# Altium schematic symbol library fpga_xilinx.SchLib: 19 symbols (part 2 of 5)
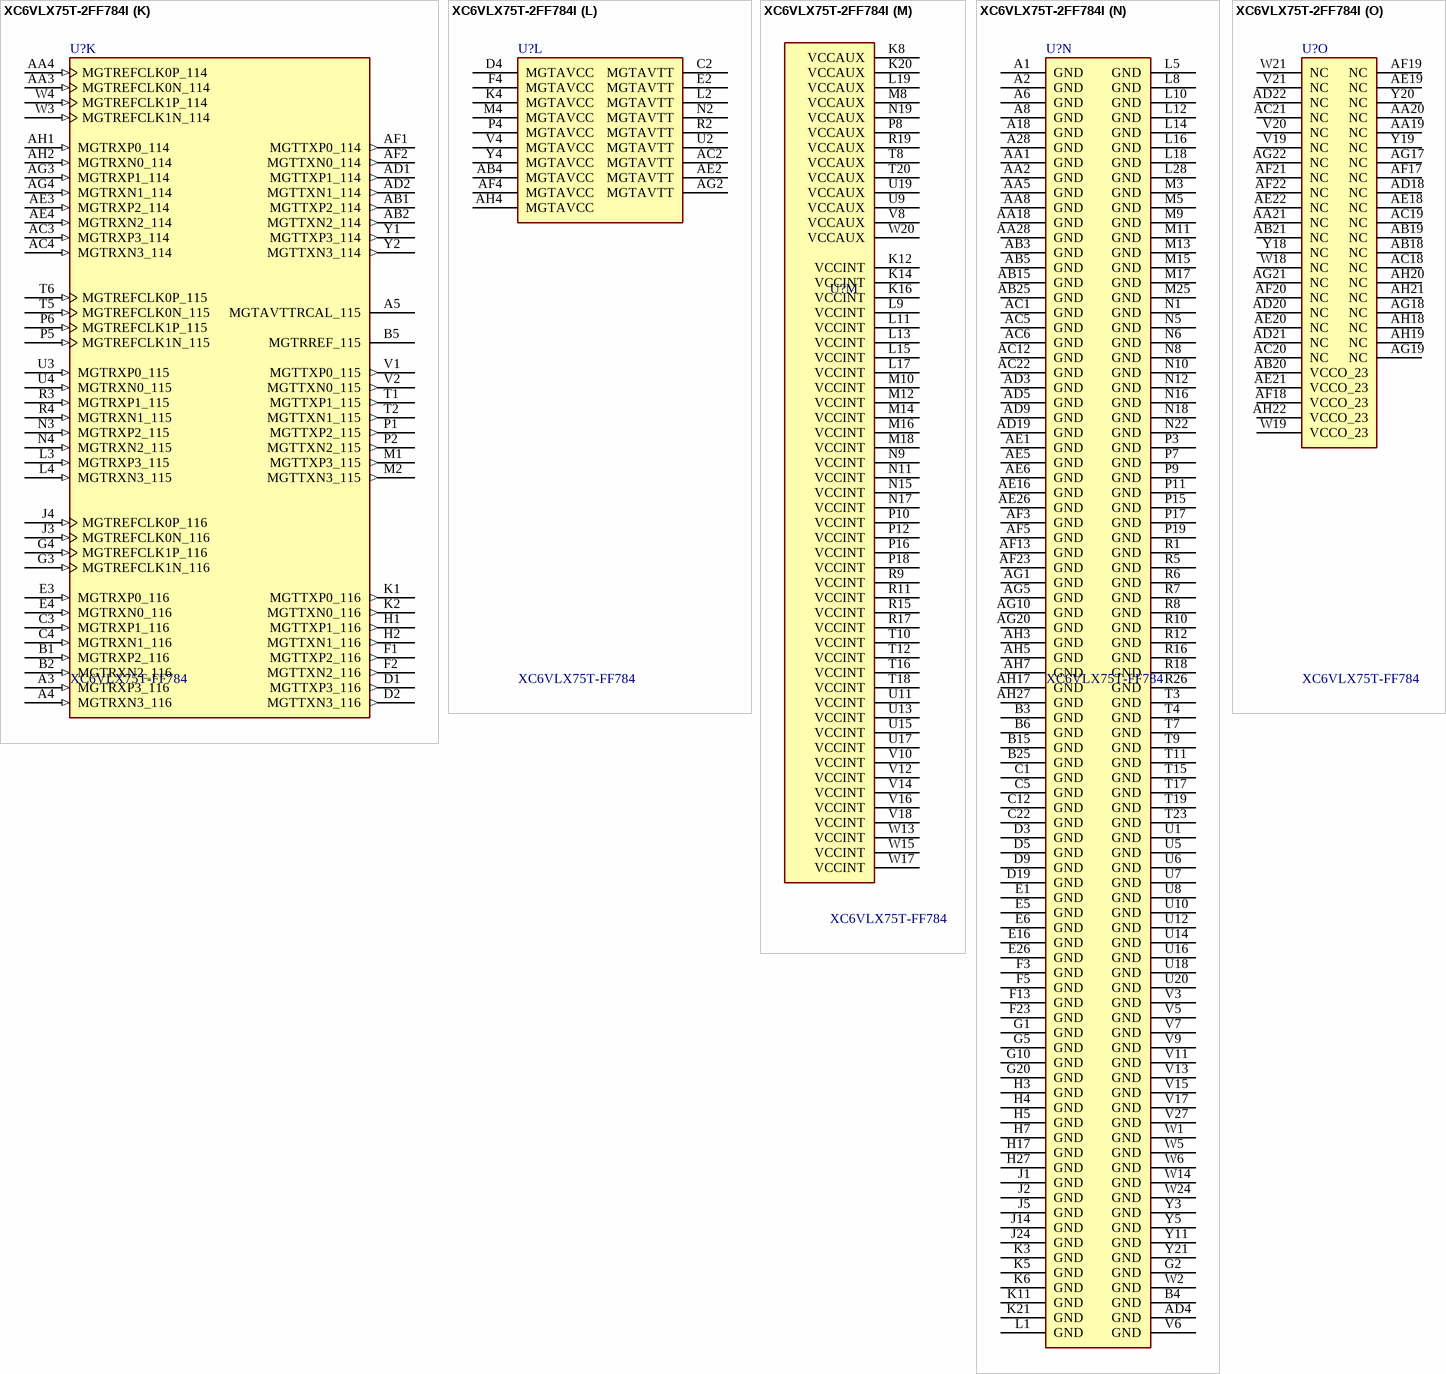
[diagram p41: symbol XC6VLX75T-2FF784I]

## XC6VLX75T-2FF784I
designator U?, comment XC6VLX75T-FF784
Virtex-6 LXT Platform FPGA, 360 User I/Os, 12 GTXs, 784-Ball FFBGA, Speed Grade 2, Industrial Grade; MANF: XILINX; MANF_P#: XC6VLX75T-2FF784I; ASSEMBLY: ASSEMBLY; VALUE: XC6VLX75T-FF784; PACKAGE: FF784; MountType: SMT
footprint BGA100_784_S29 (BGA, 784-Leads, Body 29x29mm, Pitch 1mm)
part A pins: P20 IO_L14N_VREF_14 (io), P21 IO_L8P_SRCC_14 (io), P22 IO_L8N_SRCC_14 (io), R20 IO_L14P_14 (io), R21 VCCO_14 (power), R22 IO_L18P_14 (io), R23 IO_L18N_14 (io), R24 IO_L12P_VRN_14 (io), R25 IO_L12N_VRP_14 (io), R27 IO_L0P_14 (io), R28 IO_L0N_14 (io), T21 IO_L19P_14 (io), T22 IO_L19N_14 (io), T24 IO_L15P_14 (io), T25 IO_L15N_14 (io), T26 IO_L10N_MRCC_14 (io), T27 IO_L1P_14 (io), T28 VCCO_14 (power), U21 IO_L17N_14 (io), U22 IO_L17P_14 (io), U23 IO_L11N_SRCC_14 (io), U24 IO_L16N_14 (io), U25 VCCO_14 (power), U26 IO_L10P_MRCC_14 (io), U27 IO_L1N_14 (io), U28 IO_L2N_14 (io), V22 VCCO_14 (power), V23 IO_L11P_SRCC_14 (io), V24 IO_L16P_14 (io), V25 IO_L3N_14 (io), V26 IO_L4N_VREF_14 (io), V28 IO_L2P_14 (io), W22 IO_L13N_14 (io), W23 IO_L9N_MRCC_14 (io), W25 IO_L3P_14 (io), W26 IO_L4P_14 (io), W27 IO_L6P_14 (io), W28 IO_L5N_14 (io), Y22 IO_L13P_14 (io), Y23 IO_L9P_MRCC_14 (io), Y24 IO_L7N_14 (io), Y25 IO_L7P_14 (io), Y26 VCCO_14 (power), Y27 IO_L6N_14 (io), Y28 IO_L5P_14 (io)
part B pins: H25 IO_L1P_15 (io), H26 IO_L1N_15 (io), J23 IO_L2N_SM8N_15 (io), J25 IO_L5N_SM10N_15 (io), J26 IO_L3P_SM9P_15 (io), J27 IO_L3N_SM9N_15 (io), J28 IO_L7P_SM12P_15 (io), K22 IO_L0P_15 (io), K23 IO_L0N_15 (io), K24 IO_L2P_SM8P_15 (io), K25 IO_L5P_SM10P_15 (io), K26 VCCO_15 (power), K27 IO_L9P_MRCC_15 (io), K28 IO_L7N_SM12N_15 (io), L20 IO_L4P_15 (io), L21 IO_L8P_SRCC_15 (io), L22 IO_L8N_SRCC_15 (io), L23 VCCO_15 (power), L24 IO_L14P_15 (io), L25 IO_L14N_VREF_15 (io), L26 IO_L9N_MRCC_15 (io), L27 IO_L12N_SM13N_15 (io), M19 IO_L4N_VREF_15 (io), M20 VCCO_15 (power), M21 IO_L10N_MRCC_15 (io), M22 IO_L10P_MRCC_15 (io), M23 IO_L6P_SM11P_15 (io), M24 IO_L6N_SM11N_15 (io), M26 IO_L11P_SRCC_15 (io), M27 IO_L12P_SM13P_15 (io), M28 IO_L15N_SM15N_15 (io), N20 IO_L18P_15 (io), N21 IO_L18N_15 (io), N23 IO_L19P_15 (io), N24 IO_L16P_VRN_15 (io), N25 IO_L16N_VRP_15 (io), N26 IO_L11N_SRCC_15 (io), N27 VCCO_15 (power), N28 IO_L15P_SM15P_15 (io), P23 IO_L19N_15 (io), P24 VCCO_15 (power), P25 IO_L17N_15 (io), P26 IO_L17P_15 (io), P27 IO_L13N_SM14N_15 (io), P28 IO_L13P_SM14P_15 (io)
part C pins: A26 IO_L7P_16 (io), A27 IO_L7N_16 (io), B24 IO_L1P_16 (io), B26 IO_L3P_16 (io), B27 IO_L9P_MRCC_16 (io), B28 IO_L9N_MRCC_16 (io), C23 IO_L4N_VREF_16 (io), C24 IO_L1N_16 (io), C25 IO_L3N_16 (io), C26 IO_L18N_16 (io), C27 VCCO_16 (power), C28 IO_L11N_SRCC_16 (io), D22 IO_L4P_16 (io), D23 IO_L14N_VREF_16 (io), D24 VCCO_16 (power), D25 IO_L6N_16 (io), D26 IO_L18P_16 (io), D27 IO_L11P_SRCC_16 (io), D28 IO_L13P_16 (io), E22 IO_L5P_16 (io), E23 IO_L14P_16 (io), E24 IO_L6P_16 (io), E25 IO_L10P_MRCC_16 (io), E27 IO_L16N_16 (io), E28 IO_L13N_16 (io), F22 IO_L5N_16 (io), F24 IO_L10N_MRCC_16 (io), F25 IO_L15N_16 (io), F26 IO_L15P_16 (io), F27 IO_L16P_16 (io), F28 VCCO_16 (power), G22 IO_L0P_16 (io), G23 IO_L2N_16 (io), G24 IO_L12N_VRP_16 (io), G25 VCCO_16 (power), G26 IO_L17N_16 (io), G27 IO_L17P_16 (io), G28 IO_L19P_16 (io), H21 IO_L0N_16 (io), H22 VCCO_16 (power), H23 IO_L2P_16 (io), H24 IO_L12P_VRN_16 (io), H28 IO_L19N_16 (io), J21 IO_L8P_SRCC_16 (io), J22 IO_L8N_SRCC_16 (io)
part D pins: AA22 IO_L19N_24 (io), AA23 VCCO_24 (power), AA24 IO_L6P_D7_24 (io), AA25 IO_L6N_D6_24 (io), AA26 IO_L0P_GC_24 (io), AA27 IO_L0N_GC_24 (io), AB22 IO_L19P_24 (io), AB23 IO_L11P_SRCC_24 (io), AB24 IO_L16N_CSO_B_24 (io), AB26 IO_L8N_SRCC_24 (io), AB27 IO_L8P_SRCC_24 (io), AB28 IO_L2N_D14_24 (io), AC23 IO_L11N_SRCC_24 (io), AC24 IO_L16P_RS0_24 (io), AC25 IO_L7P_D5_24 (io), AC26 IO_L12P_D3_24 (io), AC27 VCCO_24 (power), AC28 IO_L2P_D15_24 (io), AD23 IO_L18N_24 (io), AD24 VCCO_24 (power), AD25 IO_L7N_D4_24 (io), AD26 IO_L12N_D2_FS2_24 (io), AD27 IO_L1N_GC_24 (io), AD28 IO_L1P_GC_24 (io), AE23 IO_L18P_24 (io), AE24 IO_L14P_FCS_B_24 (io), AE25 IO_L10P_MRCC_24 (io), AE27 IO_L5N_D8_24 (io), AE28 IO_L5P_D9_24 (io), AF24 IO_L14N_VREF_FOE_B_MOSI_24 (io), AF25 IO_L10N_MRCC_24 (io), AF26 IO_L9P_MRCC_24 (io), AF27 IO_L3N_D12_24 (io), AF28 VCCO_24 (power), AG23 IO_L17N_VRP_24 (io), AG24 IO_L15P_FWE_B_24 (io), AG25 VCCO_24 (power), AG26 IO_L9N_MRCC_24 (io), AG27 IO_L4P_D11_24 (io), AG28 IO_L3P_D13_24 (io), AH23 IO_L17P_VRN_24 (io), AH24 IO_L15N_RS1_24 (io), AH25 IO_L13N_D0_FS0_24 (io), AH26 IO_L13P_D1_FS1_24 (io), AH28 IO_L4N_VREF_D10_24 (io)
part E pins: A19 IO_L8N_SRCC_25 (io), A20 IO_L8P_SRCC_25 (io), A21 IO_L11P_SRCC_25 (io), A22 IO_L11N_SRCC_25 (io), A23 VCCO_25 (power), A24 IO_L15P_25 (io), A25 IO_L15N_25 (io), B18 IO_L5P_25 (io), B19 IO_L5N_25 (io), B20 VCCO_25 (power), B21 IO_L13P_25 (io), B22 IO_L17P_25 (io), B23 IO_L17N_25 (io), C18 IO_L3P_25 (io), C19 IO_L12P_25 (io), C20 IO_L12N_25 (io), C21 IO_L13N_25 (io), D17 IO_L6P_25 (io), D18 IO_L3N_25 (io), D20 IO_L10P_MRCC_25 (io), D21 IO_L16N_VRP_25 (io), E17 IO_L6N_25 (io), E18 IO_L7P_25 (io), E19 IO_L10N_MRCC_25 (io), E20 IO_L16P_VRN_25 (io), E21 VCCO_25 (power), F17 IO_L1N_25 (io), F18 VCCO_25 (power), F19 IO_L7N_25 (io), F20 IO_L19P_GC_25 (io), F21 IO_L19N_GC_25 (io), G17 IO_L1P_25 (io), G18 IO_L4P_25 (io), G19 IO_L9N_MRCC_25 (io), G21 IO_L18N_GC_25 (io), H18 IO_L4N_VREF_25 (io), H19 IO_L9P_MRCC_25 (io), H20 IO_L18P_GC_25 (io), J17 IO_L2P_25 (io), J18 IO_L2N_25 (io), J19 VCCO_25 (power), J20 IO_L14N_VREF_25 (io), K17 IO_L0P_25 (io), K18 IO_L0N_25 (io), K19 IO_L14P_25 (io)
part F pins: A11 IO_L14P_26 (io), A12 IO_L14N_VREF_26 (io), A13 VCCO_26 (power), A14 IO_L9N_MRCC_26 (io), A15 IO_L13P_26 (io), A16 IO_L13N_26 (io), A17 IO_L17P_26 (io), B11 IO_L5P_26 (io), B12 IO_L18P_26 (io), B13 IO_L7N_26 (io), B14 IO_L9P_MRCC_26 (io), B16 IO_L15N_26 (io), B17 IO_L17N_26 (io), C11 IO_L5N_26 (io), C13 IO_L18N_26 (io), C14 IO_L7P_26 (io), C15 IO_L15P_26 (io), C16 IO_L16N_26 (io), C17 VCCO_26 (power), D11 IO_L0N_26 (io), D12 IO_L6N_26 (io), D13 IO_L6P_26 (io), D14 VCCO_26 (power), D15 IO_L12N_VRP_26 (io), D16 IO_L16P_26 (io), E11 VCCO_26 (power), E12 IO_L0P_26 (io), E13 IO_L1P_26 (io), E14 IO_L1N_26 (io), E15 IO_L12P_VRN_26 (io), F12 IO_L11N_SRCC_26 (io), F14 IO_L3N_26 (io), F15 IO_L10N_MRCC_26 (io), F16 IO_L10P_MRCC_26 (io), G12 IO_L11P_SRCC_26 (io), G13 IO_L19N_26 (io), G14 IO_L3P_26 (io), G15 VCCO_26 (power), G16 IO_L2N_26 (io), H14 IO_L19P_26 (io), H15 IO_L4N_VREF_26 (io), H16 IO_L2P_26 (io), J15 IO_L8P_SRCC_26 (io), J16 IO_L4P_26 (io), K15 IO_L8N_SRCC_26 (io)
part G pins: AA12 IO_L8N_SRCC_34 (io), AA13 VCCO_34 (power), AA14 IO_L3N_A12_D28_34 (io), AA15 IO_L16P_A21_34 (io), AA16 IO_L17P_A19_34 (io), AA17 IO_L19N_VRP_34 (io), AB12 IO_L1P_GC_34 (io), AB13 IO_L3P_A13_D29_34 (io), AB14 IO_L5P_A09_D25_34 (io), AB16 IO_L14P_A25_34 (io), AB17 IO_L17N_A18_34 (io), AC13 IO_L1N_GC_34 (io), AC14 IO_L5N_A08_D24_34 (io), AC15 IO_L11N_SRCC_34 (io), AC16 IO_L14N_VREF_A24_34 (io), AC17 VCCO_34 (power), AD12 IO_L0N_GC_34 (io), AD13 IO_L6P_A07_D23_34 (io), AD14 VCCO_34 (power), AD15 IO_L11P_SRCC_34 (io), AD16 IO_L15P_A23_34 (io), AD17 IO_L12N_A02_D18_34 (io), AE13 IO_L0P_GC_34 (io), AE14 IO_L6N_A06_D22_34 (io), AE15 IO_L15N_A22_34 (io), AE17 IO_L12P_A03_D19_34 (io), AF14 IO_L4P_A11_D27_34 (io), AF15 IO_L10N_MRCC_34 (io), AF16 IO_L13P_A01_D17_34 (io), AG13 IO_L4N_VREF_A10_D26_34 (io), AG14 IO_L10P_MRCC_34 (io), AG15 VCCO_34 (power), AG16 IO_L13N_A00_D16_34 (io), AH13 IO_L7P_A05_D21_34 (io), AH14 IO_L7N_A04_D20_34 (io), AH15 IO_L9P_MRCC_34 (io), AH16 IO_L9N_MRCC_34 (io), W12 IO_L2P_A15_D31_34 (io), W16 IO_L18P_A17_34 (io), Y12 IO_L2N_A14_D30_34 (io), Y13 IO_L8P_SRCC_34 (io), Y14 IO_L16N_A20_34 (io), Y15 IO_L18N_A16_34 (io), Y16 VCCO_34 (power), Y17 IO_L19P_VRN_34 (io)
part H pins: AA7 IO_L2P_SM0P_35 (io), AA9 IO_L4P_35 (io), AA10 IO_L1N_35 (io), AA11 IO_L9N_MRCC_35 (io), AB7 IO_L2N_SM0N_35 (io), AB8 IO_L6N_SM3N_35 (io), AB9 IO_L4N_VREF_35 (io), AB10 VCCO_35 (power), AB11 IO_L9P_MRCC_35 (io), AC7 VCCO_35 (power), AC8 IO_L6P_SM3P_35 (io), AC9 IO_L3P_SM1P_35 (io), AC10 IO_L5P_SM2P_35 (io), AC11 IO_L7N_SM4N_35 (io), AD7 IO_L10P_MRCC_35 (io), AD8 IO_L3N_SM1N_35 (io), AD10 IO_L5N_SM2N_35 (io), AD11 IO_L7P_SM4P_35 (io), AE7 IO_L10N_MRCC_35 (io), AE8 IO_L12N_SM5N_35 (io), AE9 IO_L14P_35 (io), AE10 IO_L18N_GC_35 (io), AE11 VCCO_35 (power), AE12 IO_L15N_SM7N_35 (io), AF7 IO_L12P_SM5P_35 (io), AF8 VCCO_35 (power), AF9 IO_L14N_VREF_35 (io), AF10 IO_L18P_GC_35 (io), AF11 IO_L11P_SRCC_35 (io), AF12 IO_L15P_SM7P_35 (io), AG7 IO_L16P_VRN_35 (io), AG8 IO_L16N_VRP_35 (io), AG9 IO_L13P_SM6P_35 (io), AG11 IO_L11N_SRCC_35 (io), AG12 IO_L19N_GC_35 (io), AH8 IO_L13N_SM6N_35 (io), AH9 IO_L17P_35 (io), AH10 IO_L17N_35 (io), AH11 IO_L19P_GC_35 (io), AH12 VCCO_35 (power), W8 IO_L0P_35 (io), W9 VCCO_35 (power), W10 IO_L8N_SRCC_35 (io), W11 IO_L8P_SRCC_35 (io), Y9 IO_L0N_35 (io), Y10 IO_L1P_35 (io)
part I pins: A7 IO_L3P_36 (io), A9 IO_L2N_36 (io), A10 IO_L2P_36 (io), B7 IO_L3N_36 (io), B8 IO_L1P_36 (io), B9 IO_L12P_VRN_36 (io), B10 VCCO_36 (power), C7 VCCO_36 (power), C8 IO_L1N_36 (io), C9 IO_L12N_VRP_36 (io), C10 IO_L8N_SRCC_36 (io), D7 IO_L14P_36 (io), D8 IO_L5P_36 (io), D10 IO_L8P_SRCC_36 (io), E7 IO_L14N_VREF_36 (io), E8 IO_L7P_36 (io), E9 IO_L5N_36 (io), E10 IO_L0N_36 (io), F7 IO_L9P_MRCC_36 (io), F8 VCCO_36 (power), F9 IO_L7N_36 (io), F10 IO_L6N_36 (io), F11 IO_L0P_36 (io), G7 IO_L9N_MRCC_36 (io), G8 IO_L13P_36 (io), G9 IO_L13N_36 (io), G11 IO_L6P_36 (io), H8 IO_L15P_36 (io), H9 IO_L15N_36 (io), H10 IO_L10N_MRCC_36 (io), H11 IO_L10P_MRCC_36 (io), H12 VCCO_36 (power), H13 IO_L4P_36 (io), J7 IO_L17P_36 (io), J8 IO_L17N_36 (io), J9 VCCO_36 (power), J10 IO_L16N_36 (io), J11 IO_L16P_36 (io), J12 IO_L11P_SRCC_36 (io), J13 IO_L4N_VREF_36 (io), K7 IO_L19P_36 (io), K9 IO_L18P_36 (io), K10 IO_L18N_36 (io), K13 IO_L11N_SRCC_36 (io), L7 IO_L19N_36 (io)
part J pins: AA6 TDI_0 (in), AB6 TCK_0 (in), AD6 VFS_0 (power), AF6 DOUT_BUSY_0 (out), AG6 CSI_B_0 (in), AH6 CCLK_0 (io), C6 M2_0 (in), D6 M1_0 (in), F6 M0_0 (in), G6 RDWR_B_0 (in), H6 DIN_0 (in), J6 VBATT_0 (power), L6 DONE_0 (io), M6 INIT_B_0 (io), M7 PROGRAM_B_0 (in), N7 HSWAPEN_0 (in), N13 AVSS_0 (power), N14 AVDD_0 (power), P13 VREFN_0 (power), P14 VP_0 (power), R13 VN_0 (power), R14 VREFP_0 (power), T13 DXN_0, T14 DXP_0, W7 VCCO_0 (power), Y6 TMS_0 (in), Y7 TDO_0 (out), Y8 VCCO_0 (power)
part K pins: A3 MGTRXP3_116 (in), A4 MGTRXN3_116 (in), A5 MGTAVTTRCAL_115, AA3 MGTREFCLK0N_114 (in), AA4 MGTREFCLK0P_114 (in), AB1 MGTTXP2_114 (out), AB2 MGTTXN2_114 (out), AC3 MGTRXP3_114 (in), AC4 MGTRXN3_114 (in), AD1 MGTTXP1_114 (out), AD2 MGTTXN1_114 (out), AE3 MGTRXP2_114 (in), AE4 MGTRXN2_114 (in), AF1 MGTTXP0_114 (out), AF2 MGTTXN0_114 (out), AG3 MGTRXP1_114 (in), AG4 MGTRXN1_114 (in), AH1 MGTRXP0_114 (in), AH2 MGTRXN0_114 (in), B1 MGTRXP2_116 (in), B2 MGTRXN2_116 (in), B5 MGTRREF_115, C3 MGTRXP1_116 (in), C4 MGTRXN1_116 (in), D1 MGTTXP3_116 (out), D2 MGTTXN3_116 (out), E3 MGTRXP0_116 (in), E4 MGTRXN0_116 (in), F1 MGTTXP2_116 (out), F2 MGTTXN2_116 (out), G3 MGTREFCLK1N_116 (in), G4 MGTREFCLK1P_116 (in), H1 MGTTXP1_116 (out), H2 MGTTXN1_116 (out), J3 MGTREFCLK0N_116 (in), J4 MGTREFCLK0P_116 (in), K1 MGTTXP0_116 (out), K2 MGTTXN0_116 (out), L3 MGTRXP3_115 (in), L4 MGTRXN3_115 (in), M1 MGTTXP3_115 (out), M2 MGTTXN3_115 (out), N3 MGTRXP2_115 (in), N4 MGTRXN2_115 (in), P1 MGTTXP2_115 (out), P2 MGTTXN2_115 (out), P5 MGTREFCLK1N_115 (in), P6 MGTREFCLK1P_115 (in), R3 MGTRXP1_115 (in), R4 MGTRXN1_115 (in), T1 MGTTXP1_115 (out), T2 MGTTXN1_115 (out), T5 MGTREFCLK0N_115 (in), T6 MGTREFCLK0P_115 (in), U3 MGTRXP0_115 (in), U4 MGTRXN0_115 (in), V1 MGTTXP0_115 (out), V2 MGTTXN0_115 (out), W3 MGTREFCLK1N_114 (in), W4 MGTREFCLK1P_114 (in), Y1 MGTTXP3_114 (out), Y2 MGTTXN3_114 (out)
part L pins: AB4 MGTAVCC (power), AC2 MGTAVTT (power), AE2 MGTAVTT (power), AF4 MGTAVCC (power), AG2 MGTAVTT (power), AH4 MGTAVCC (power), C2 MGTAVTT (power), D4 MGTAVCC (power), E2 MGTAVTT (power), F4 MGTAVCC (power), K4 MGTAVCC (power), L2 MGTAVTT (power), M4 MGTAVCC (power), N2 MGTAVTT (power), P4 MGTAVCC (power), R2 MGTAVTT (power), U2 MGTAVTT (power), V4 MGTAVCC (power), Y4 MGTAVCC (power)
part M pins: K8 VCCAUX (power), K12 VCCINT (power), K14 VCCINT (power), K16 VCCINT (power), K20 VCCAUX (power), L9 VCCINT (power), L11 VCCINT (power), L13 VCCINT (power), L15 VCCINT (power), L17 VCCINT (power), L19 VCCAUX (power), M8 VCCAUX (power), M10 VCCINT (power), M12 VCCINT (power), M14 VCCINT (power), M16 VCCINT (power), M18 VCCINT (power), N9 VCCINT (power), N11 VCCINT (power), N15 VCCINT (power), N17 VCCINT (power), N19 VCCAUX (power), P8 VCCAUX (power), P10 VCCINT (power), P12 VCCINT (power), P16 VCCINT (power), P18 VCCINT (power), R9 VCCINT (power), R11 VCCINT (power), R15 VCCINT (power), R17 VCCINT (power), R19 VCCAUX (power), T8 VCCAUX (power), T10 VCCINT (power), T12 VCCINT (power), T16 VCCINT (power), T18 VCCINT (power), T20 VCCAUX (power), U9 VCCAUX (power), U11 VCCINT (power), U13 VCCINT (power), U15 VCCINT (power), U17 VCCINT (power), U19 VCCAUX (power), V8 VCCAUX (power), V10 VCCINT (power), V12 VCCINT (power), V14 VCCINT (power), V16 VCCINT (power), V18 VCCINT (power), W13 VCCINT (power), W15 VCCINT (power), W17 VCCINT (power), W20 VCCAUX (power)
part N pins: A1 GND (power), A2 GND (power), A6 GND (power), A8 GND (power), A18 GND (power), A28 GND (power), AA1 GND (power), AA2 GND (power), AA5 GND (power), AA8 GND (power), AA18 GND (power), AA28 GND (power), AB3 GND (power), AB5 GND (power), AB15 GND (power), AB25 GND (power), AC1 GND (power), AC5 GND (power), AC6 GND (power), AC12 GND (power), AC22 GND (power), AD3 GND (power), AD4 GND (power), AD5 GND (power), AD9 GND (power), AD19 GND (power), AE1 GND (power), AE5 GND (power), AE6 GND (power), AE16 GND (power), AE26 GND (power), AF3 GND (power), AF5 GND (power), AF13 GND (power), AF23 GND (power), AG1 GND (power), AG5 GND (power), AG10 GND (power), AG20 GND (power), AH3 GND (power), AH5 GND (power), AH7 GND (power), AH17 GND (power), AH27 GND (power), B3 GND (power), B4 GND (power), B6 GND (power), B15 GND (power), B25 GND (power), C1 GND (power), C5 GND (power), C12 GND (power), C22 GND (power), D3 GND (power), D5 GND (power), D9 GND (power), D19 GND (power), E1 GND (power), E5 GND (power), E6 GND (power), E16 GND (power), E26 GND (power), F3 GND (power), F5 GND (power), F13 GND (power), F23 GND (power), G1 GND (power), G2 GND (power), G5 GND (power), G10 GND (power), G20 GND (power), H3 GND (power), H4 GND (power), H5 GND (power), H7 GND (power), H17 GND (power), H27 GND (power), J1 GND (power), J2 GND (power), J5 GND (power), J14 GND (power), J24 GND (power), K3 GND (power), K5 GND (power), K6 GND (power), K11 GND (power), K21 GND (power), L1 GND (power), L5 GND (power), L8 GND (power), L10 GND (power), L12 GND (power), L14 GND (power), L16 GND (power), L18 GND (power), L28 GND (power), M3 GND (power), M5 GND (power), M9 GND (power), M11 GND (power), M13 GND (power), M15 GND (power), M17 GND (power), M25 GND (power), N1 GND (power), N5 GND (power), N6 GND (power), N8 GND (power), N10 GND (power), N12 GND (power), N16 GND (power), N18 GND (power), N22 GND (power), P3 GND (power), P7 GND (power), P9 GND (power), P11 GND (power), P15 GND (power), P17 GND (power), P19 GND (power), R1 GND (power), R5 GND (power), R6 GND (power), R7 GND (power), R8 GND (power), R10 GND (power), R12 GND (power), R16 GND (power), R18 GND (power), R26 GND (power), T3 GND (power), T4 GND (power), T7 GND (power), T9 GND (power), T11 GND (power), T15 GND (power), T17 GND (power), T19 GND (power), T23 GND (power), U1 GND (power), U5 GND (power), U6 GND (power), U7 GND (power), U8 GND (power), U10 GND (power), U12 GND (power), U14 GND (power), U16 GND (power), U18 GND (power), U20 GND (power), V3 GND (power), V5 GND (power), V6 GND (power), V7 GND (power), V9 GND (power), V11 GND (power), V13 GND (power), V15 GND (power), V17 GND (power), V27 GND (power), W1 GND (power), W2 GND (power), W5 GND (power), W6 GND (power), W14 GND (power), W24 GND (power), Y3 GND (power), Y5 GND (power), Y11 GND (power), Y21 GND (power)
part O pins: AA19 NC, AA20 NC, AA21 NC, AB18 NC, AB19 NC, AB20 VCCO_23 (power), AB21 NC, AC18 NC, AC19 NC, AC20 NC, AC21 NC, AD18 NC, AD20 NC, AD21 NC, AD22 NC, AE18 NC, AE19 NC, AE20 NC, AE21 VCCO_23 (power), AE22 NC, AF17 NC, AF18 VCCO_23 (power), AF19 NC, AF20 NC, AF21 NC, AF22 NC, AG17 NC, AG18 NC, AG19 NC, AG21 NC, AG22 NC, AH18 NC, AH19 NC, AH20 NC, AH21 NC, AH22 VCCO_23 (power), V19 NC, V20 NC, V21 NC, W18 NC, W19 VCCO_23 (power), W21 NC, Y18 NC, Y19 NC, Y20 NC
part A text: BANK 14
part B text: BANK 15
part C text: BANK 16
part D text: BANK 24
part E text: BANK 25
part F text: BANK 26
part G text: BANK 34
part H text: BANK 35
part I text: BANK 36

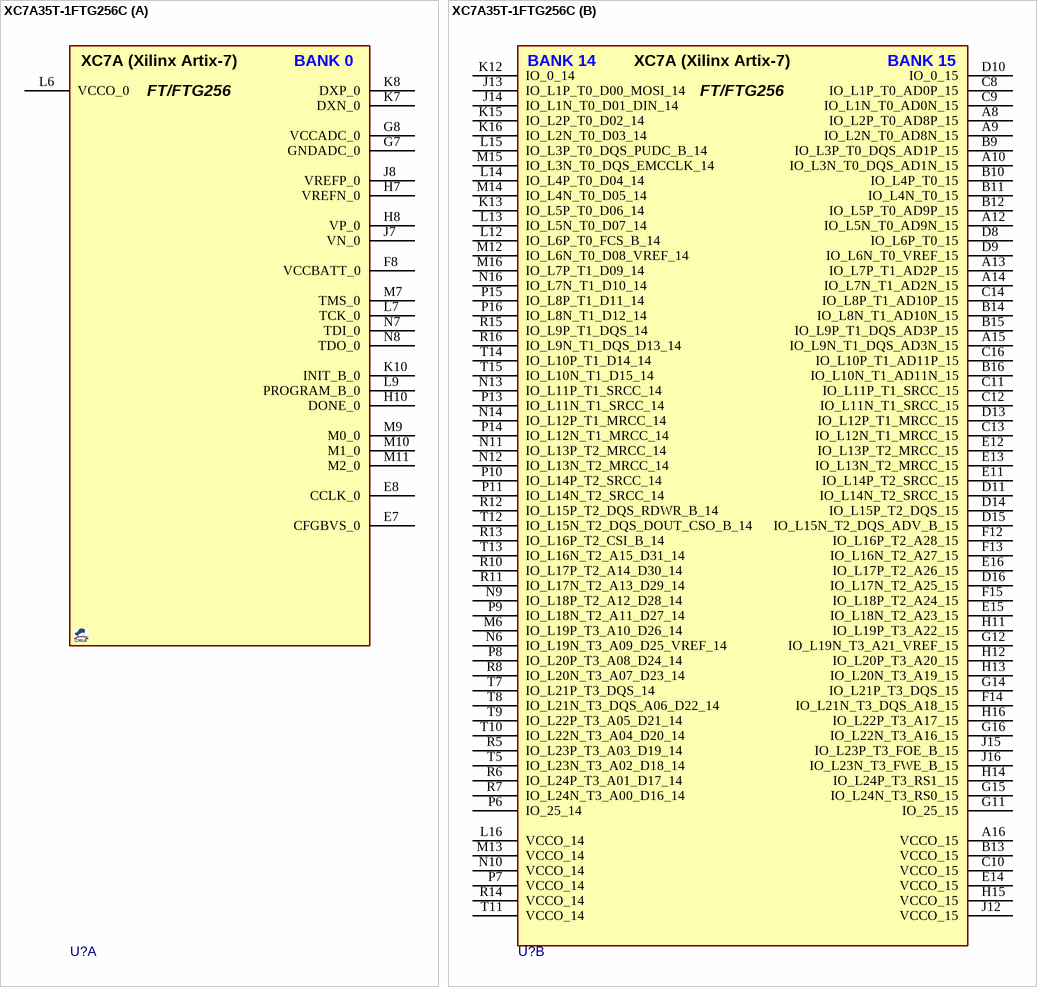
[diagram p9: symbol XC7A35T-1FTG256C]

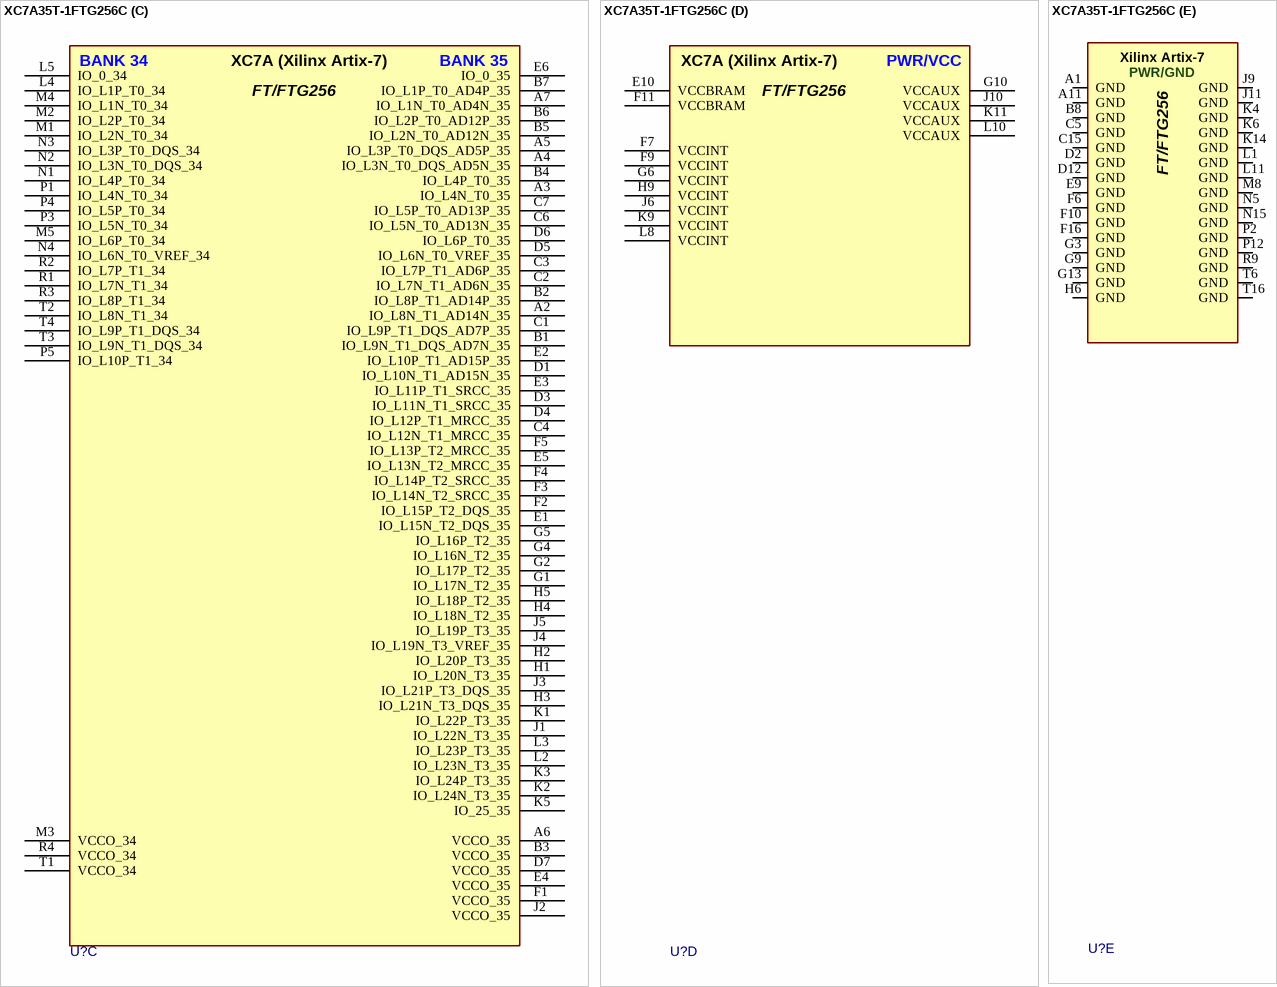
[diagram p10: symbol XC7A35T-1FTG256C]

## XC7A35T-1FTG256C
designator U?, comment XC7A35T  (value not drawn)
Artix-7 FPGA, 285 User I/Os, 4 GTP, 484-Ball BGA; MANF: Xilinx; MANF_P#: XC7A35T-1FTG256C; ASSEMBLY: ASSEMBLY; PACKAGE: FTG256; VALUE: XC7A35T; MountType: SMT
footprint BGA100_256_S17 (LBGA256, Body 17x17mm, Pitch 1.00mm)
part A pins: E7 CFGBVS_0 (power), E8 CCLK_0 (power), F8 VCCBATT_0 (power), G7 GNDADC_0 (power), G8 VCCADC_0 (power), H7 VREFN_0 (power), H8 VP_0 (power), H10 DONE_0 (power), J7 VN_0 (power), J8 VREFP_0 (power), K7 DXN_0 (power), K8 DXP_0 (power), K10 INIT_B_0 (power), L6 VCCO_0 (power), L7 TCK_0 (power), L9 PROGRAM_B_0 (power), M7 TMS_0 (power), M9 M0_0 (power), M10 M1_0 (power), M11 M2_0 (power), N7 TDI_0 (power), N8 TDO_0 (power)
part B pins: A8 IO_L2P_T0_AD8P_15 (power), A9 IO_L2N_T0_AD8N_15 (power), A10 IO_L3N_T0_DQS_AD1N_15 (power), A12 IO_L5N_T0_AD9N_15 (power), A13 IO_L7P_T1_AD2P_15 (power), A14 IO_L7N_T1_AD2N_15 (power), A15 IO_L9N_T1_DQS_AD3N_15 (power), A16 VCCO_15 (power), B9 IO_L3P_T0_DQS_AD1P_15 (power), B10 IO_L4P_T0_15 (power), B11 IO_L4N_T0_15 (power), B12 IO_L5P_T0_AD9P_15 (power), B13 VCCO_15 (power), B14 IO_L8N_T1_AD10N_15 (power), B15 IO_L9P_T1_DQS_AD3P_15 (power), B16 IO_L10N_T1_AD11N_15 (power), C8 IO_L1P_T0_AD0P_15 (power), C9 IO_L1N_T0_AD0N_15 (power), C10 VCCO_15 (power), C11 IO_L11P_T1_SRCC_15 (power), C12 IO_L11N_T1_SRCC_15 (power), C13 IO_L12N_T1_MRCC_15 (power), C14 IO_L8P_T1_AD10P_15 (power), C16 IO_L10P_T1_AD11P_15 (power), D8 IO_L6P_T0_15 (power), D9 IO_L6N_T0_VREF_15 (power), D10 IO_0_15 (power), D11 IO_L14N_T2_SRCC_15 (power), D13 IO_L12P_T1_MRCC_15 (power), D14 IO_L15P_T2_DQS_15 (power), D15 IO_L15N_T2_DQS_ADV_B_15 (power), D16 IO_L17N_T2_A25_15 (power), E11 IO_L14P_T2_SRCC_15 (power), E12 IO_L13P_T2_MRCC_15 (power), E13 IO_L13N_T2_MRCC_15 (power), E14 VCCO_15 (power), E15 IO_L18N_T2_A23_15 (power), E16 IO_L17P_T2_A26_15 (power), F12 IO_L16P_T2_A28_15 (power), F13 IO_L16N_T2_A27_15 (power), F14 IO_L21N_T3_DQS_A18_15 (power), F15 IO_L18P_T2_A24_15 (power), G11 IO_25_15 (power), G12 IO_L19N_T3_A21_VREF_15 (power), G14 IO_L21P_T3_DQS_15 (power), G15 IO_L24N_T3_RS0_15 (power), G16 IO_L22N_T3_A16_15 (power), H11 IO_L19P_T3_A22_15 (power), H12 IO_L20P_T3_A20_15 (power), H13 IO_L20N_T3_A19_15 (power), H14 IO_L24P_T3_RS1_15 (power), H15 VCCO_15 (power), H16 IO_L22P_T3_A17_15 (power), J12 VCCO_15 (power), J13 IO_L1P_T0_D00_MOSI_14 (power), J14 IO_L1N_T0_D01_DIN_14 (power), J15 IO_L23P_T3_FOE_B_15 (power), J16 IO_L23N_T3_FWE_B_15 (power), K12 IO_0_14 (power), K13 IO_L5P_T0_D06_14 (power), K15 IO_L2P_T0_D02_14 (power), K16 IO_L2N_T0_D03_14 (power), L12 IO_L6P_T0_FCS_B_14 (power), L13 IO_L5N_T0_D07_14 (power), L14 IO_L4P_T0_D04_14 (power), L15 IO_L3P_T0_DQS_PUDC_B_14 (power), L16 VCCO_14 (power), M6 IO_L19P_T3_A10_D26_14 (power), M12 IO_L6N_T0_D08_VREF_14 (power), M13 VCCO_14 (power), M14 IO_L4N_T0_D05_14 (power), M15 IO_L3N_T0_DQS_EMCCLK_14 (power), M16 IO_L7P_T1_D09_14 (power), N6 IO_L19N_T3_A09_D25_VREF_14 (power), N9 IO_L18P_T2_A12_D28_14 (power), N10 VCCO_14 (power), N11 IO_L13P_T2_MRCC_14 (power), N12 IO_L13N_T2_MRCC_14 (power), N13 IO_L11P_T1_SRCC_14 (power), N14 IO_L12P_T1_MRCC_14 (power), N16 IO_L7N_T1_D10_14 (power), P6 IO_25_14 (power), P7 VCCO_14 (power), P8 IO_L20P_T3_A08_D24_14 (power), P9 IO_L18N_T2_A11_D27_14 (power), P10 IO_L14P_T2_SRCC_14 (power), P11 IO_L14N_T2_SRCC_14 (power), P13 IO_L11N_T1_SRCC_14 (power), P14 IO_L12N_T1_MRCC_14 (power), P15 IO_L8P_T1_D11_14 (power), P16 IO_L8N_T1_D12_14 (power), R5 IO_L23P_T3_A03_D19_14 (power), R6 IO_L24P_T3_A01_D17_14 (power), R7 IO_L24N_T3_A00_D16_14 (power), R8 IO_L20N_T3_A07_D23_14 (power), R10 IO_L17P_T2_A14_D30_14 (power), R11 IO_L17N_T2_A13_D29_14 (power), R12 IO_L15P_T2_DQS_RDWR_B_14 (power), R13 IO_L16P_T2_CSI_B_14 (power), R14 VCCO_14 (power), R15 IO_L9P_T1_DQS_14 (power), R16 IO_L9N_T1_DQS_D13_14 (power), T5 IO_L23N_T3_A02_D18_14 (power), T7 IO_L21P_T3_DQS_14 (power), T8 IO_L21N_T3_DQS_A06_D22_14 (power), T9 IO_L22P_T3_A05_D21_14 (power), T10 IO_L22N_T3_A04_D20_14 (power), T11 VCCO_14 (power), T12 IO_L15N_T2_DQS_DOUT_CSO_B_14 (power), T13 IO_L16N_T2_A15_D31_14 (power), T14 IO_L10P_T1_D14_14 (power), T15 IO_L10N_T1_D15_14 (power)
part C pins: A2 IO_L8N_T1_AD14N_35 (power), A3 IO_L4N_T0_35 (power), A4 IO_L3N_T0_DQS_AD5N_35 (power), A5 IO_L3P_T0_DQS_AD5P_35 (power), A6 VCCO_35 (power), A7 IO_L1N_T0_AD4N_35 (power), B1 IO_L9N_T1_DQS_AD7N_35 (power), B2 IO_L8P_T1_AD14P_35 (power), B3 VCCO_35 (power), B4 IO_L4P_T0_35 (power), B5 IO_L2N_T0_AD12N_35 (power), B6 IO_L2P_T0_AD12P_35 (power), B7 IO_L1P_T0_AD4P_35 (power), C1 IO_L9P_T1_DQS_AD7P_35 (power), C2 IO_L7N_T1_AD6N_35 (power), C3 IO_L7P_T1_AD6P_35 (power), C4 IO_L12N_T1_MRCC_35 (power), C6 IO_L5N_T0_AD13N_35 (power), C7 IO_L5P_T0_AD13P_35 (power), D1 IO_L10N_T1_AD15N_35 (power), D3 IO_L11N_T1_SRCC_35 (power), D4 IO_L12P_T1_MRCC_35 (power), D5 IO_L6N_T0_VREF_35 (power), D6 IO_L6P_T0_35 (power), D7 VCCO_35 (power), E1 IO_L15N_T2_DQS_35 (power), E2 IO_L10P_T1_AD15P_35 (power), E3 IO_L11P_T1_SRCC_35 (power), E4 VCCO_35 (power), E5 IO_L13N_T2_MRCC_35 (power), E6 IO_0_35 (power), F1 VCCO_35 (power), F2 IO_L15P_T2_DQS_35 (power), F3 IO_L14N_T2_SRCC_35 (power), F4 IO_L14P_T2_SRCC_35 (power), F5 IO_L13P_T2_MRCC_35 (power), G1 IO_L17N_T2_35 (power), G2 IO_L17P_T2_35 (power), G4 IO_L16N_T2_35 (power), G5 IO_L16P_T2_35 (power), H1 IO_L20N_T3_35 (power), H2 IO_L20P_T3_35 (power), H3 IO_L21N_T3_DQS_35 (power), H4 IO_L18N_T2_35 (power), H5 IO_L18P_T2_35 (power), J1 IO_L22N_T3_35 (power), J2 VCCO_35 (power), J3 IO_L21P_T3_DQS_35 (power), J4 IO_L19N_T3_VREF_35 (power), J5 IO_L19P_T3_35 (power), K1 IO_L22P_T3_35 (power), K2 IO_L24N_T3_35 (power), K3 IO_L24P_T3_35 (power), K5 IO_25_35 (power), L2 IO_L23N_T3_35 (power), L3 IO_L23P_T3_35 (power), L4 IO_L1P_T0_34 (power), L5 IO_0_34 (power), M1 IO_L2N_T0_34 (power), M2 IO_L2P_T0_34 (power), M3 VCCO_34 (power), M4 IO_L1N_T0_34 (power), M5 IO_L6P_T0_34 (power), N1 IO_L4P_T0_34 (power), N2 IO_L3N_T0_DQS_34 (power), N3 IO_L3P_T0_DQS_34 (power), N4 IO_L6N_T0_VREF_34 (power), P1 IO_L4N_T0_34 (power), P3 IO_L5N_T0_34 (power), P4 IO_L5P_T0_34 (power), P5 IO_L10P_T1_34 (power), R1 IO_L7N_T1_34 (power), R2 IO_L7P_T1_34 (power), R3 IO_L8P_T1_34 (power), R4 VCCO_34 (power), T1 VCCO_34 (power), T2 IO_L8N_T1_34 (power), T3 IO_L9N_T1_DQS_34 (power), T4 IO_L9P_T1_DQS_34 (power)
part D pins: E10 VCCBRAM (power), F7 VCCINT (power), F9 VCCINT (power), F11 VCCBRAM (power), G6 VCCINT (power), G10 VCCAUX (power), H9 VCCINT (power), J6 VCCINT (power), J10 VCCAUX (power), K9 VCCINT (power), K11 VCCAUX (power), L8 VCCINT (power), L10 VCCAUX (power)
part E pins: A1 GND (power), A11 GND (power), B8 GND (power), C5 GND (power), C15 GND (power), D2 GND (power), D12 GND (power), E9 GND (power), F6 GND (power), F10 GND (power), F16 GND (power), G3 GND (power), G9 GND (power), G13 GND (power), H6 GND (power), J9 GND (power), J11 GND (power), K4 GND (power), K6 GND (power), K14 GND (power), L1 GND (power), L11 GND (power), M8 GND (power), N5 GND (power), N15 GND (power), P2 GND (power), P12 GND (power), R9 GND (power), T6 GND (power), T16 GND (power)
part A text: XC7A (Xilinx Artix-7); BANK 0; FT/FTG256
part B text: BANK 14; XC7A (Xilinx Artix-7); BANK 15; FT/FTG256
part C text: BANK 34; XC7A (Xilinx Artix-7); BANK 35; FT/FTG256
part D text: XC7A (Xilinx Artix-7); PWR/VCC; FT/FTG256
part E text: Xilinx Artix-7; PWR/GND; FT/FTG256

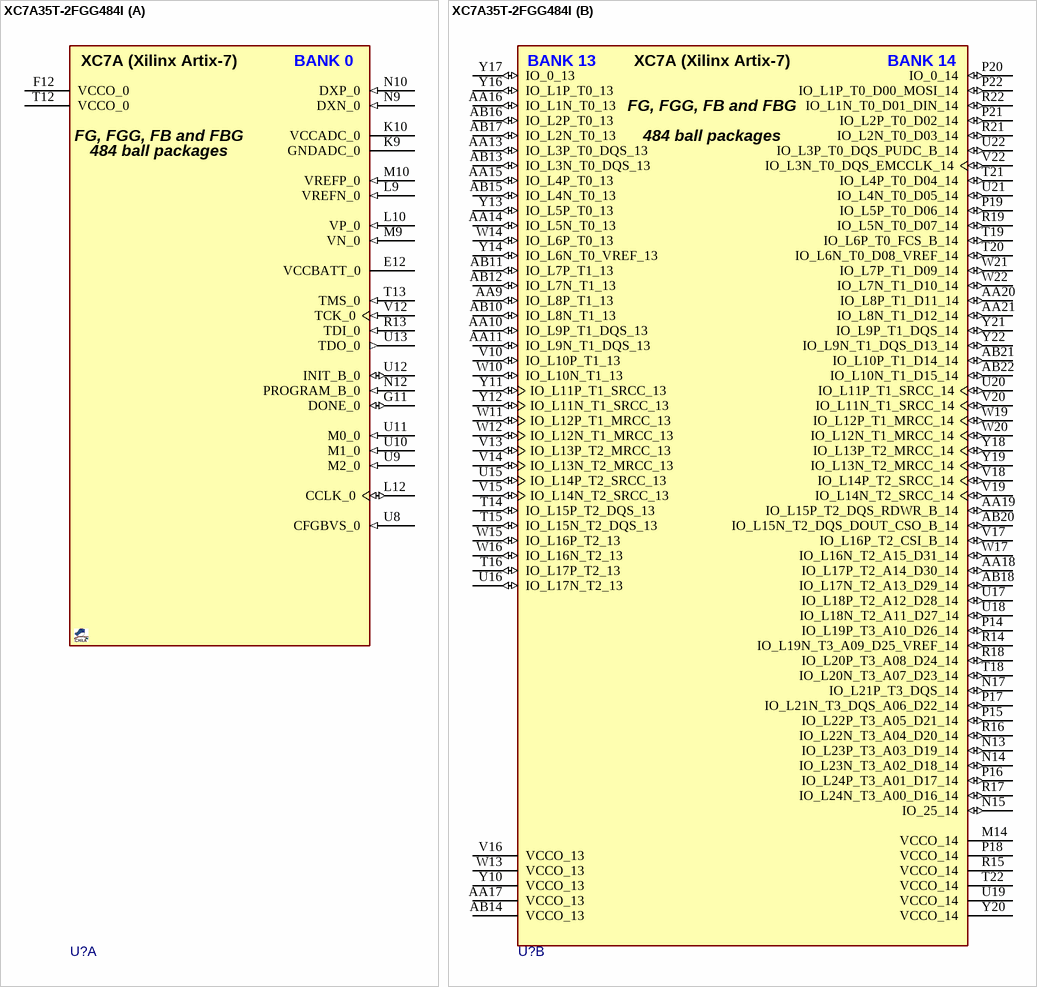
[diagram p11: symbol XC7A35T-2FGG484I]

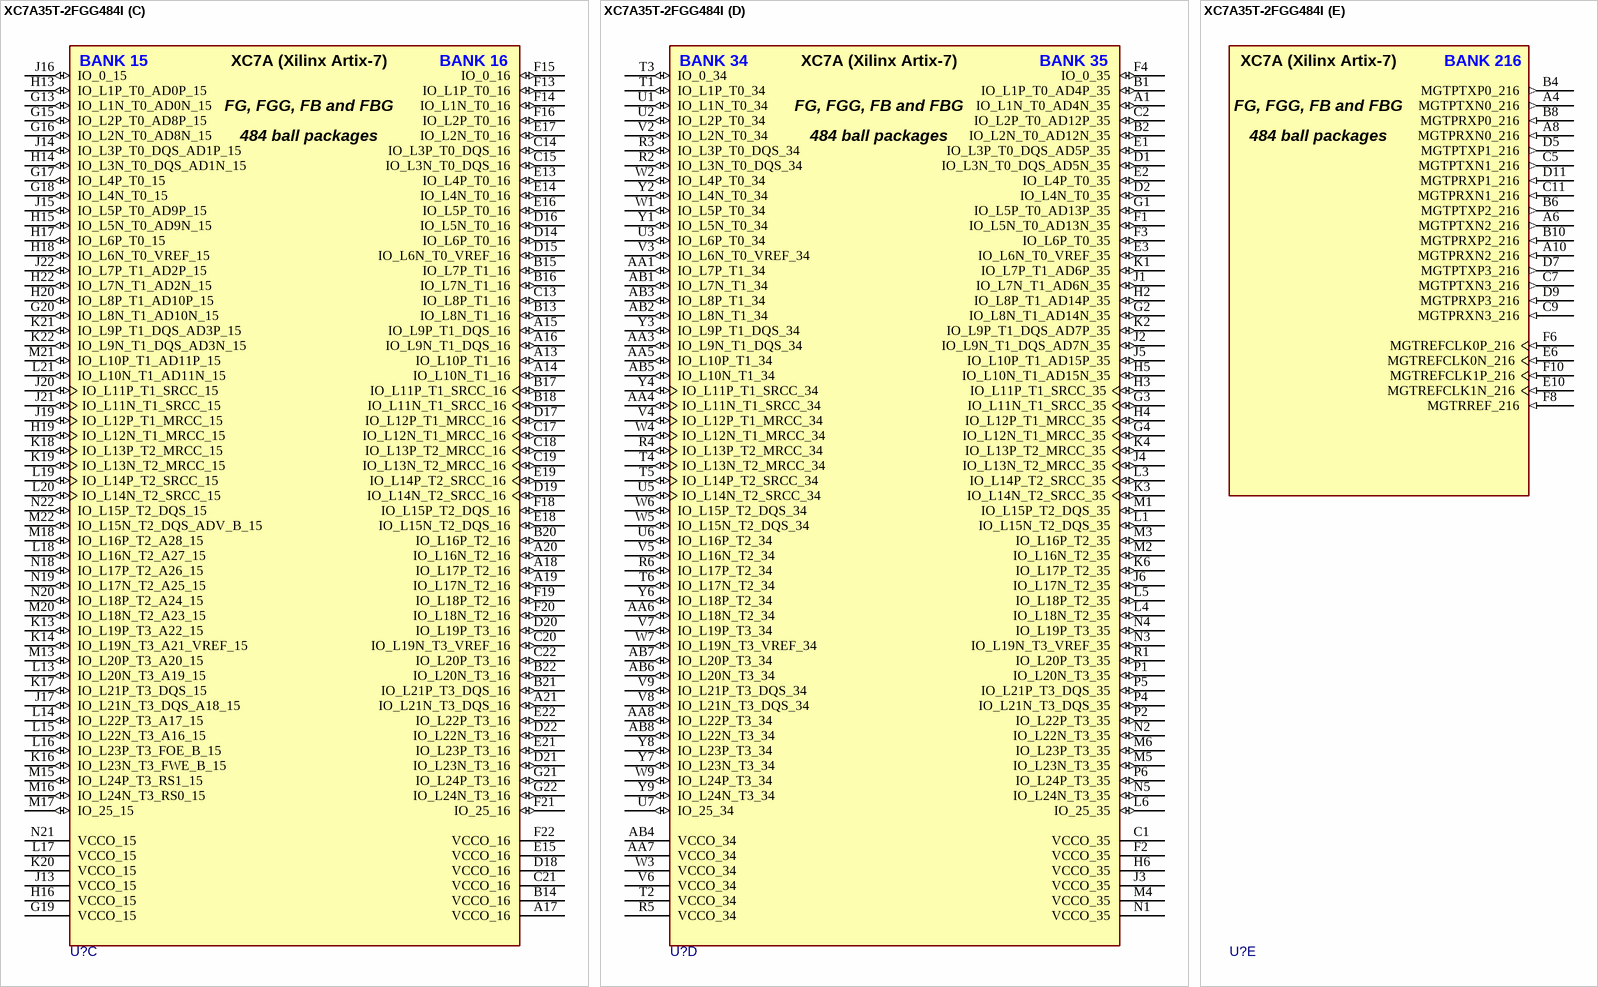
[diagram p12: symbol XC7A35T-2FGG484I]

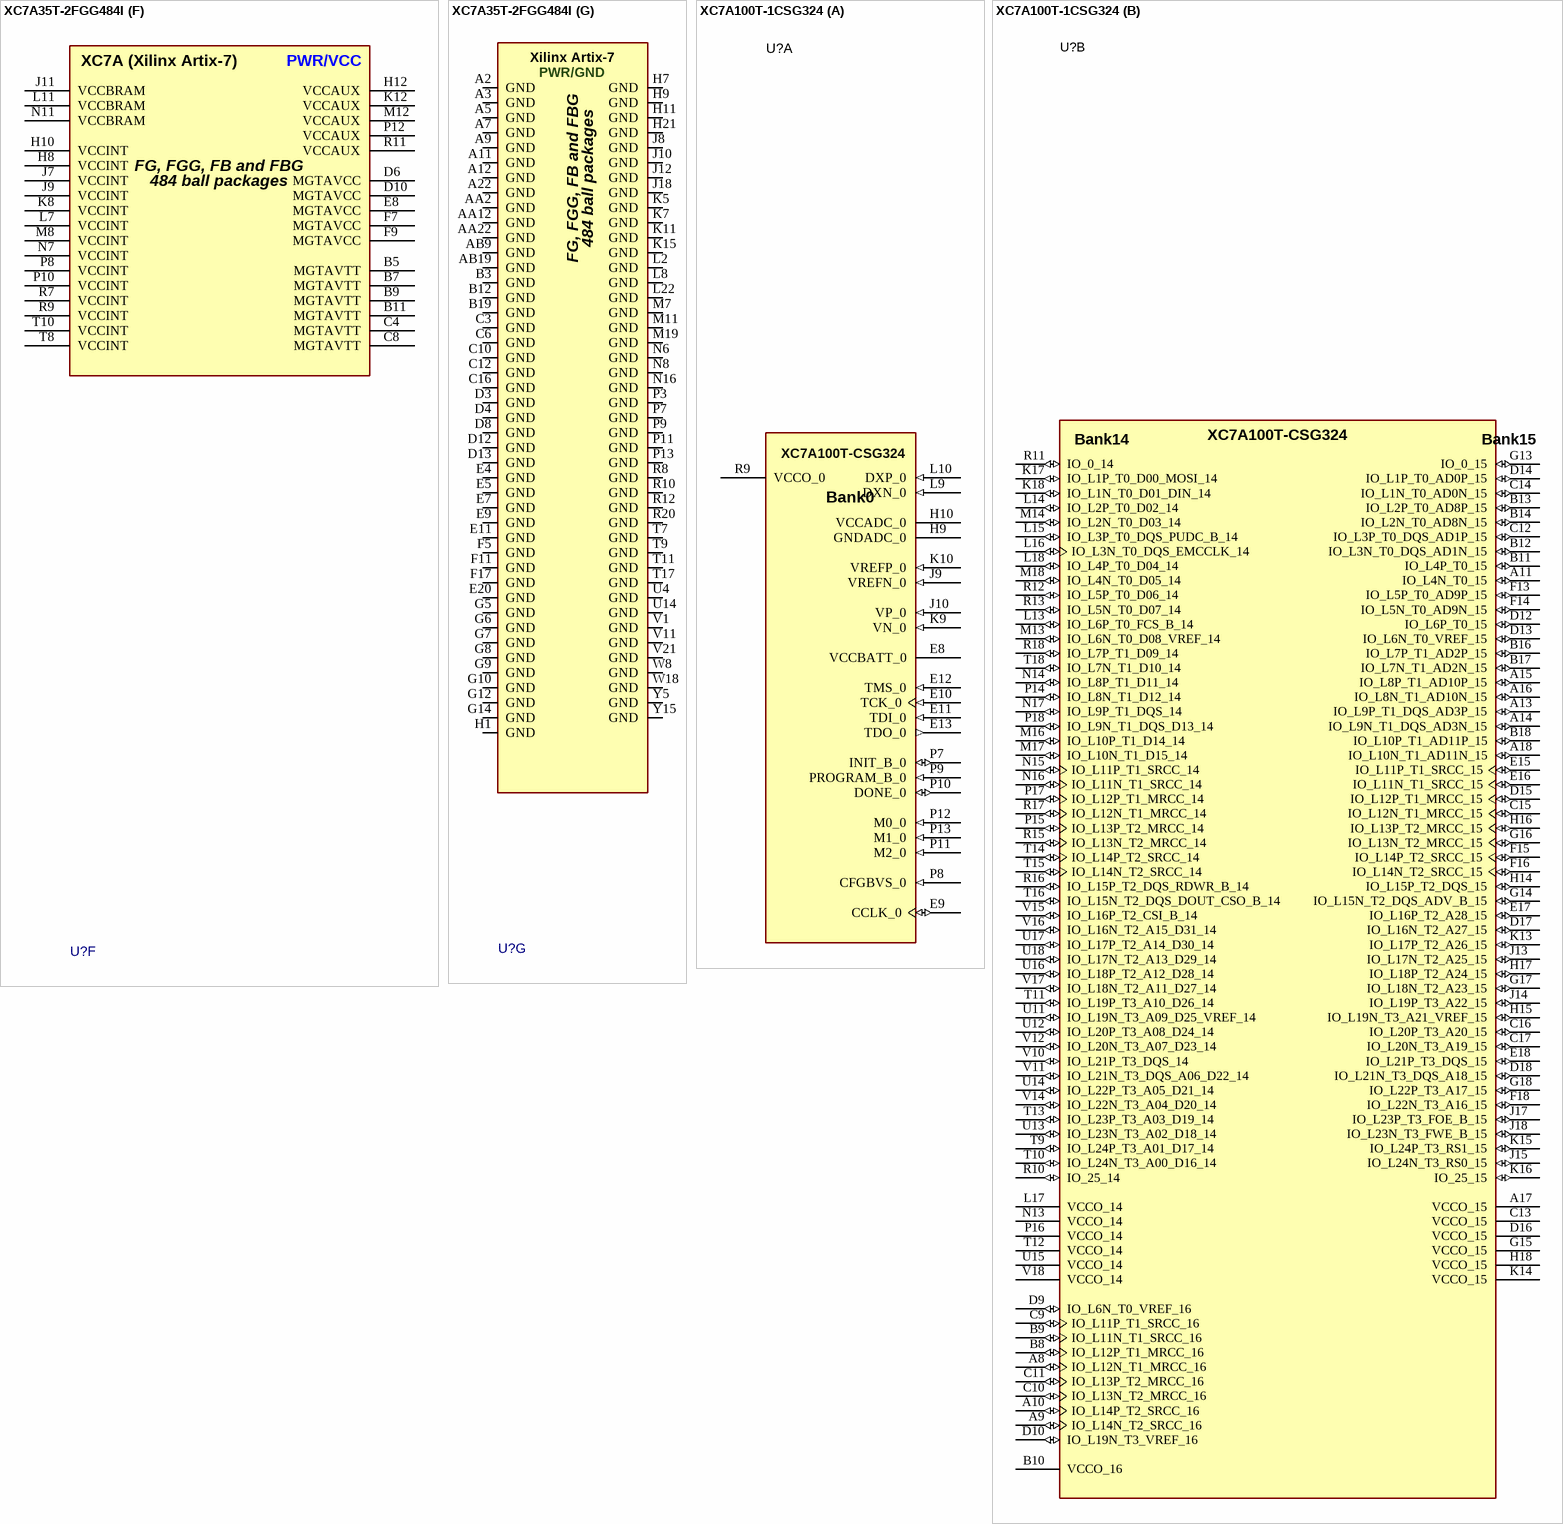
[diagram p13: symbols XC7A35T-2FGG484I to XC7A100T-1CSG324]

## XC7A35T-2FGG484I
designator U?, comment XC7A35T  (value not drawn)
Artix-7 FPGA, 285 User I/Os, 4 GTP, 484-Ball BGA; MANF: Xilinx; MANF_P#: XC7A35T-2FGG484I; ASSEMBLY: ASSEMBLY; PACKAGE: FGG484; VALUE: XC7A35T; MountType: SMT
footprint BGA100_484_S23 (BGA, 484-Leads, Body 23.0x23.0mm,  Pitch 1.00mm)
part A pins: E12 VCCBATT_0 (power), F12 VCCO_0 (power), G11 DONE_0 (io), K9 GNDADC_0 (power), K10 VCCADC_0 (power), L9 VREFN_0 (in), L10 VP_0 (in), L12 CCLK_0 (io), M9 VN_0 (in), M10 VREFP_0 (in), N9 DXN_0 (in), N10 DXP_0 (in), N12 PROGRAM_B_0 (in), R13 TDI_0 (in), T12 VCCO_0 (power), T13 TMS_0 (in), U8 CFGBVS_0 (in), U9 M2_0 (in), U10 M1_0 (in), U11 M0_0 (in), U12 INIT_B_0 (io), U13 TDO_0 (out), V12 TCK_0 (in)
part B pins: AA9 IO_L8P_T1_13 (io), AA10 IO_L9P_T1_DQS_13 (io), AA11 IO_L9N_T1_DQS_13 (io), AA13 IO_L3P_T0_DQS_13 (io), AA14 IO_L5N_T0_13 (io), AA15 IO_L4P_T0_13 (io), AA16 IO_L1N_T0_13 (io), AA17 VCCO_13 (power), AA18 IO_L17P_T2_A14_D30_14 (io), AA19 IO_L15P_T2_DQS_RDWR_B_14 (io), AA20 IO_L8P_T1_D11_14 (io), AA21 IO_L8N_T1_D12_14 (io), AB10 IO_L8N_T1_13 (io), AB11 IO_L7P_T1_13 (io), AB12 IO_L7N_T1_13 (io), AB13 IO_L3N_T0_DQS_13 (io), AB14 VCCO_13 (power), AB15 IO_L4N_T0_13 (io), AB16 IO_L2P_T0_13 (io), AB17 IO_L2N_T0_13 (io), AB18 IO_L17N_T2_A13_D29_14 (io), AB20 IO_L15N_T2_DQS_DOUT_CSO_B_14 (io), AB21 IO_L10P_T1_D14_14 (io), AB22 IO_L10N_T1_D15_14 (io), M14 VCCO_14 (power), N13 IO_L23P_T3_A03_D19_14 (io), N14 IO_L23N_T3_A02_D18_14 (io), N15 IO_25_14 (io), N17 IO_L21P_T3_DQS_14 (io), P14 IO_L19P_T3_A10_D26_14 (io), P15 IO_L22P_T3_A05_D21_14 (io), P16 IO_L24P_T3_A01_D17_14 (io), P17 IO_L21N_T3_DQS_A06_D22_14 (io), P18 VCCO_14 (power), P19 IO_L5P_T0_D06_14 (io), P20 IO_0_14 (io), P21 IO_L2P_T0_D02_14 (io), P22 IO_L1P_T0_D00_MOSI_14 (io), R14 IO_L19N_T3_A09_D25_VREF_14 (io), R15 VCCO_14 (power), R16 IO_L22N_T3_A04_D20_14 (io), R17 IO_L24N_T3_A00_D16_14 (io), R18 IO_L20P_T3_A08_D24_14 (io), R19 IO_L5N_T0_D07_14 (io), R21 IO_L2N_T0_D03_14 (io), R22 IO_L1N_T0_D01_DIN_14 (io), T14 IO_L15P_T2_DQS_13 (io), T15 IO_L15N_T2_DQS_13 (io), T16 IO_L17P_T2_13 (io), T18 IO_L20N_T3_A07_D23_14 (io), T19 IO_L6P_T0_FCS_B_14 (io), T20 IO_L6N_T0_D08_VREF_14 (io), T21 IO_L4P_T0_D04_14 (io), T22 VCCO_14 (power), U15 IO_L14P_T2_SRCC_13 (io), U16 IO_L17N_T2_13 (io), U17 IO_L18P_T2_A12_D28_14 (io), U18 IO_L18N_T2_A11_D27_14 (io), U19 VCCO_14 (power), U20 IO_L11P_T1_SRCC_14 (io), U21 IO_L4N_T0_D05_14 (io), U22 IO_L3P_T0_DQS_PUDC_B_14 (io), V10 IO_L10P_T1_13 (io), V13 IO_L13P_T2_MRCC_13 (io), V14 IO_L13N_T2_MRCC_13 (io), V15 IO_L14N_T2_SRCC_13 (io), V16 VCCO_13 (power), V17 IO_L16P_T2_CSI_B_14 (io), V18 IO_L14P_T2_SRCC_14 (io), V19 IO_L14N_T2_SRCC_14 (io), V20 IO_L11N_T1_SRCC_14 (io), V22 IO_L3N_T0_DQS_EMCCLK_14 (io), W10 IO_L10N_T1_13 (io), W11 IO_L12P_T1_MRCC_13 (io), W12 IO_L12N_T1_MRCC_13 (io), W13 VCCO_13 (power), W14 IO_L6P_T0_13 (io), W15 IO_L16P_T2_13 (io), W16 IO_L16N_T2_13 (io), W17 IO_L16N_T2_A15_D31_14 (io), W19 IO_L12P_T1_MRCC_14 (io), W20 IO_L12N_T1_MRCC_14 (io), W21 IO_L7P_T1_D09_14 (io), W22 IO_L7N_T1_D10_14 (io), Y10 VCCO_13 (power), Y11 IO_L11P_T1_SRCC_13 (io), Y12 IO_L11N_T1_SRCC_13 (io), Y13 IO_L5P_T0_13 (io), Y14 IO_L6N_T0_VREF_13 (io), Y16 IO_L1P_T0_13 (io), Y17 IO_0_13 (io), Y18 IO_L13P_T2_MRCC_14 (io), Y19 IO_L13N_T2_MRCC_14 (io), Y20 VCCO_14 (power), Y21 IO_L9P_T1_DQS_14 (io), Y22 IO_L9N_T1_DQS_D13_14 (io)
part C pins: A13 IO_L10P_T1_16 (io), A14 IO_L10N_T1_16 (io), A15 IO_L9P_T1_DQS_16 (io), A16 IO_L9N_T1_DQS_16 (io), A17 VCCO_16 (power), A18 IO_L17P_T2_16 (io), A19 IO_L17N_T2_16 (io), A20 IO_L16N_T2_16 (io), A21 IO_L21N_T3_DQS_16 (io), B13 IO_L8N_T1_16 (io), B14 VCCO_16 (power), B15 IO_L7P_T1_16 (io), B16 IO_L7N_T1_16 (io), B17 IO_L11P_T1_SRCC_16 (io), B18 IO_L11N_T1_SRCC_16 (io), B20 IO_L16P_T2_16 (io), B21 IO_L21P_T3_DQS_16 (io), B22 IO_L20N_T3_16 (io), C13 IO_L8P_T1_16 (io), C14 IO_L3P_T0_DQS_16 (io), C15 IO_L3N_T0_DQS_16 (io), C17 IO_L12N_T1_MRCC_16 (io), C18 IO_L13P_T2_MRCC_16 (io), C19 IO_L13N_T2_MRCC_16 (io), C20 IO_L19N_T3_VREF_16 (io), C21 VCCO_16 (power), C22 IO_L20P_T3_16 (io), D14 IO_L6P_T0_16 (io), D15 IO_L6N_T0_VREF_16 (io), D16 IO_L5N_T0_16 (io), D17 IO_L12P_T1_MRCC_16 (io), D18 VCCO_16 (power), D19 IO_L14N_T2_SRCC_16 (io), D20 IO_L19P_T3_16 (io), D21 IO_L23N_T3_16 (io), D22 IO_L22N_T3_16 (io), E13 IO_L4P_T0_16 (io), E14 IO_L4N_T0_16 (io), E15 VCCO_16 (power), E16 IO_L5P_T0_16 (io), E17 IO_L2N_T0_16 (io), E18 IO_L15N_T2_DQS_16 (io), E19 IO_L14P_T2_SRCC_16 (io), E21 IO_L23P_T3_16 (io), E22 IO_L22P_T3_16 (io), F13 IO_L1P_T0_16 (io), F14 IO_L1N_T0_16 (io), F15 IO_0_16 (io), F16 IO_L2P_T0_16 (io), F18 IO_L15P_T2_DQS_16 (io), F19 IO_L18P_T2_16 (io), F20 IO_L18N_T2_16 (io), F21 IO_25_16 (io), F22 VCCO_16 (power), G13 IO_L1N_T0_AD0N_15 (io), G15 IO_L2P_T0_AD8P_15 (io), G16 IO_L2N_T0_AD8N_15 (io), G17 IO_L4P_T0_15 (io), G18 IO_L4N_T0_15 (io), G19 VCCO_15 (power), G20 IO_L8N_T1_AD10N_15 (io), G21 IO_L24P_T3_16 (io), G22 IO_L24N_T3_16 (io), H13 IO_L1P_T0_AD0P_15 (io), H14 IO_L3N_T0_DQS_AD1N_15 (io), H15 IO_L5N_T0_AD9N_15 (io), H16 VCCO_15 (power), H17 IO_L6P_T0_15 (io), H18 IO_L6N_T0_VREF_15 (io), H19 IO_L12N_T1_MRCC_15 (io), H20 IO_L8P_T1_AD10P_15 (io), H22 IO_L7N_T1_AD2N_15 (io), J13 VCCO_15 (power), J14 IO_L3P_T0_DQS_AD1P_15 (io), J15 IO_L5P_T0_AD9P_15 (io), J16 IO_0_15 (io), J17 IO_L21N_T3_DQS_A18_15 (io), J19 IO_L12P_T1_MRCC_15 (io), J20 IO_L11P_T1_SRCC_15 (io), J21 IO_L11N_T1_SRCC_15 (io), J22 IO_L7P_T1_AD2P_15 (io), K13 IO_L19P_T3_A22_15 (io), K14 IO_L19N_T3_A21_VREF_15 (io), K16 IO_L23N_T3_FWE_B_15 (io), K17 IO_L21P_T3_DQS_15 (io), K18 IO_L13P_T2_MRCC_15 (io), K19 IO_L13N_T2_MRCC_15 (io), K20 VCCO_15 (power), K21 IO_L9P_T1_DQS_AD3P_15 (io), K22 IO_L9N_T1_DQS_AD3N_15 (io), L13 IO_L20N_T3_A19_15 (io), L14 IO_L22P_T3_A17_15 (io), L15 IO_L22N_T3_A16_15 (io), L16 IO_L23P_T3_FOE_B_15 (io), L17 VCCO_15 (power), L18 IO_L16N_T2_A27_15 (io), L19 IO_L14P_T2_SRCC_15 (io), L20 IO_L14N_T2_SRCC_15 (io), L21 IO_L10N_T1_AD11N_15 (io), M13 IO_L20P_T3_A20_15 (io), M15 IO_L24P_T3_RS1_15 (io), M16 IO_L24N_T3_RS0_15 (io), M17 IO_25_15 (io), M18 IO_L16P_T2_A28_15 (io), M20 IO_L18N_T2_A23_15 (io), M21 IO_L10P_T1_AD11P_15 (io), M22 IO_L15N_T2_DQS_ADV_B_15 (io), N18 IO_L17P_T2_A26_15 (io), N19 IO_L17N_T2_A25_15 (io), N20 IO_L18P_T2_A24_15 (io), N21 VCCO_15 (power), N22 IO_L15P_T2_DQS_15 (io)
part D pins: A1 IO_L1N_T0_AD4N_35 (io), AA1 IO_L7P_T1_34 (io), AA3 IO_L9N_T1_DQS_34 (io), AA4 IO_L11N_T1_SRCC_34 (io), AA5 IO_L10P_T1_34 (io), AA6 IO_L18N_T2_34 (io), AA7 VCCO_34 (power), AA8 IO_L22P_T3_34 (io), AB1 IO_L7N_T1_34 (io), AB2 IO_L8N_T1_34 (io), AB3 IO_L8P_T1_34 (io), AB4 VCCO_34 (power), AB5 IO_L10N_T1_34 (io), AB6 IO_L20N_T3_34 (io), AB7 IO_L20P_T3_34 (io), AB8 IO_L22N_T3_34 (io), B1 IO_L1P_T0_AD4P_35 (io), B2 IO_L2N_T0_AD12N_35 (io), C1 VCCO_35 (power), C2 IO_L2P_T0_AD12P_35 (io), D1 IO_L3N_T0_DQS_AD5N_35 (io), D2 IO_L4N_T0_35 (io), E1 IO_L3P_T0_DQS_AD5P_35 (io), E2 IO_L4P_T0_35 (io), E3 IO_L6N_T0_VREF_35 (io), F1 IO_L5N_T0_AD13N_35 (io), F2 VCCO_35 (power), F3 IO_L6P_T0_35 (io), F4 IO_0_35 (io), G1 IO_L5P_T0_AD13P_35 (io), G2 IO_L8N_T1_AD14N_35 (io), G3 IO_L11N_T1_SRCC_35 (io), G4 IO_L12N_T1_MRCC_35 (io), H2 IO_L8P_T1_AD14P_35 (io), H3 IO_L11P_T1_SRCC_35 (io), H4 IO_L12P_T1_MRCC_35 (io), H5 IO_L10N_T1_AD15N_35 (io), H6 VCCO_35 (power), J1 IO_L7N_T1_AD6N_35 (io), J2 IO_L9N_T1_DQS_AD7N_35 (io), J3 VCCO_35 (power), J4 IO_L13N_T2_MRCC_35 (io), J5 IO_L10P_T1_AD15P_35 (io), J6 IO_L17N_T2_35 (io), K1 IO_L7P_T1_AD6P_35 (io), K2 IO_L9P_T1_DQS_AD7P_35 (io), K3 IO_L14N_T2_SRCC_35 (io), K4 IO_L13P_T2_MRCC_35 (io), K6 IO_L17P_T2_35 (io), L1 IO_L15N_T2_DQS_35 (io), L3 IO_L14P_T2_SRCC_35 (io), L4 IO_L18N_T2_35 (io), L5 IO_L18P_T2_35 (io), L6 IO_25_35 (io), M1 IO_L15P_T2_DQS_35 (io), M2 IO_L16N_T2_35 (io), M3 IO_L16P_T2_35 (io), M4 VCCO_35 (power), M5 IO_L23N_T3_35 (io), M6 IO_L23P_T3_35 (io), N1 VCCO_35 (power), N2 IO_L22N_T3_35 (io), N3 IO_L19N_T3_VREF_35 (io), N4 IO_L19P_T3_35 (io), N5 IO_L24N_T3_35 (io), P1 IO_L20N_T3_35 (io), P2 IO_L22P_T3_35 (io), P4 IO_L21N_T3_DQS_35 (io), P5 IO_L21P_T3_DQS_35 (io), P6 IO_L24P_T3_35 (io), R1 IO_L20P_T3_35 (io), R2 IO_L3N_T0_DQS_34 (io), R3 IO_L3P_T0_DQS_34 (io), R4 IO_L13P_T2_MRCC_34 (io), R5 VCCO_34 (power), R6 IO_L17P_T2_34 (io), T1 IO_L1P_T0_34 (io), T2 VCCO_34 (power), T3 IO_0_34 (io), T4 IO_L13N_T2_MRCC_34 (io), T5 IO_L14P_T2_SRCC_34 (io), T6 IO_L17N_T2_34 (io), U1 IO_L1N_T0_34 (io), U2 IO_L2P_T0_34 (io), U3 IO_L6P_T0_34 (io), U5 IO_L14N_T2_SRCC_34 (io), U6 IO_L16P_T2_34 (io), U7 IO_25_34 (io), V2 IO_L2N_T0_34 (io), V3 IO_L6N_T0_VREF_34 (io), V4 IO_L12P_T1_MRCC_34 (io), V5 IO_L16N_T2_34 (io), V6 VCCO_34 (power), V7 IO_L19P_T3_34 (io), V8 IO_L21N_T3_DQS_34 (io), V9 IO_L21P_T3_DQS_34 (io), W1 IO_L5P_T0_34 (io), W2 IO_L4P_T0_34 (io), W3 VCCO_34 (power), W4 IO_L12N_T1_MRCC_34 (io), W5 IO_L15N_T2_DQS_34 (io), W6 IO_L15P_T2_DQS_34 (io), W7 IO_L19N_T3_VREF_34 (io), W9 IO_L24P_T3_34 (io), Y1 IO_L5N_T0_34 (io), Y2 IO_L4N_T0_34 (io), Y3 IO_L9P_T1_DQS_34 (io), Y4 IO_L11P_T1_SRCC_34 (io), Y6 IO_L18P_T2_34 (io), Y7 IO_L23N_T3_34 (io), Y8 IO_L23P_T3_34 (io), Y9 IO_L24N_T3_34 (io)
part E pins: A4 MGTPTXN0_216 (out), A6 MGTPTXN2_216 (out), A8 MGTPRXN0_216 (in), A10 MGTPRXN2_216 (in), B4 MGTPTXP0_216 (out), B6 MGTPTXP2_216 (out), B8 MGTPRXP0_216 (in), B10 MGTPRXP2_216 (in), C5 MGTPTXN1_216 (out), C7 MGTPTXN3_216 (out), C9 MGTPRXN3_216 (in), C11 MGTPRXN1_216 (in), D5 MGTPTXP1_216 (out), D7 MGTPTXP3_216 (out), D9 MGTPRXP3_216 (in), D11 MGTPRXP1_216 (in), E6 MGTREFCLK0N_216 (in), E10 MGTREFCLK1N_216 (in), F6 MGTREFCLK0P_216 (in), F8 MGTRREF_216 (in), F10 MGTREFCLK1P_216 (in)
part F pins: B5 MGTAVTT (power), B7 MGTAVTT (power), B9 MGTAVTT (power), B11 MGTAVTT (power), C4 MGTAVTT (power), C8 MGTAVTT (power), D6 MGTAVCC (power), D10 MGTAVCC (power), E8 MGTAVCC (power), F7 MGTAVCC (power), F9 MGTAVCC (power), H8 VCCINT (power), H10 VCCINT (power), H12 VCCAUX (power), J7 VCCINT (power), J9 VCCINT (power), J11 VCCBRAM (power), K8 VCCINT (power), K12 VCCAUX (power), L7 VCCINT (power), L11 VCCBRAM (power), M8 VCCINT (power), M12 VCCAUX (power), N7 VCCINT (power), N11 VCCBRAM (power), P8 VCCINT (power), P10 VCCINT (power), P12 VCCAUX (power), R7 VCCINT (power), R9 VCCINT (power), R11 VCCAUX (power), T8 VCCINT (power), T10 VCCINT (power)
part G pins: A2 GND (power), A3 GND (power), A5 GND (power), A7 GND (power), A9 GND (power), A11 GND (power), A12 GND (power), A22 GND (power), AA2 GND (power), AA12 GND (power), AA22 GND (power), AB9 GND (power), AB19 GND (power), B3 GND (power), B12 GND (power), B19 GND (power), C3 GND (power), C6 GND (power), C10 GND (power), C12 GND (power), C16 GND (power), D3 GND (power), D4 GND (power), D8 GND (power), D12 GND (power), D13 GND (power), E4 GND (power), E5 GND (power), E7 GND (power), E9 GND (power), E11 GND (power), E20 GND (power), F5 GND (power), F11 GND (power), F17 GND (power), G5 GND (power), G6 GND (power), G7 GND (power), G8 GND (power), G9 GND (power), G10 GND (power), G12 GND (power), G14 GND (power), H1 GND (power), H7 GND (power), H9 GND (power), H11 GND (power), H21 GND (power), J8 GND (power), J10 GND (power), J12 GND (power), J18 GND (power), K5 GND (power), K7 GND (power), K11 GND (power), K15 GND (power), L2 GND (power), L8 GND (power), L22 GND (power), M7 GND (power), M11 GND (power), M19 GND (power), N6 GND (power), N8 GND (power), N16 GND (power), P3 GND (power), P7 GND (power), P9 GND (power), P11 GND (power), P13 GND (power), R8 GND (power), R10 GND (power), R12 GND (power), R20 GND (power), T7 GND (power), T9 GND (power), T11 GND (power), T17 GND (power), U4 GND (power), U14 GND (power), V1 GND (power), V11 GND (power), V21 GND (power), W8 GND (power), W18 GND (power), Y5 GND (power), Y15 GND (power)
part A text: XC7A (Xilinx Artix-7); BANK 0; FG, FGG, FB and FBG; 484 ball packages
part B text: BANK 13; XC7A (Xilinx Artix-7); BANK 14; FG, FGG, FB and FBG; 484 ball packages
part C text: BANK 15; XC7A (Xilinx Artix-7); BANK 16; FG, FGG, FB and FBG; 484 ball packages
part D text: BANK 34; XC7A (Xilinx Artix-7); BANK 35; FG, FGG, FB and FBG; 484 ball packages
part E text: XC7A (Xilinx Artix-7); BANK 216; FG, FGG, FB and FBG; 484 ball packages
part F text: XC7A (Xilinx Artix-7); PWR/VCC; FG, FGG, FB and FBG; 484 ball packages
part G text: Xilinx Artix-7; PWR/GND; FG, FGG, FB and FBG; 484 ball packages

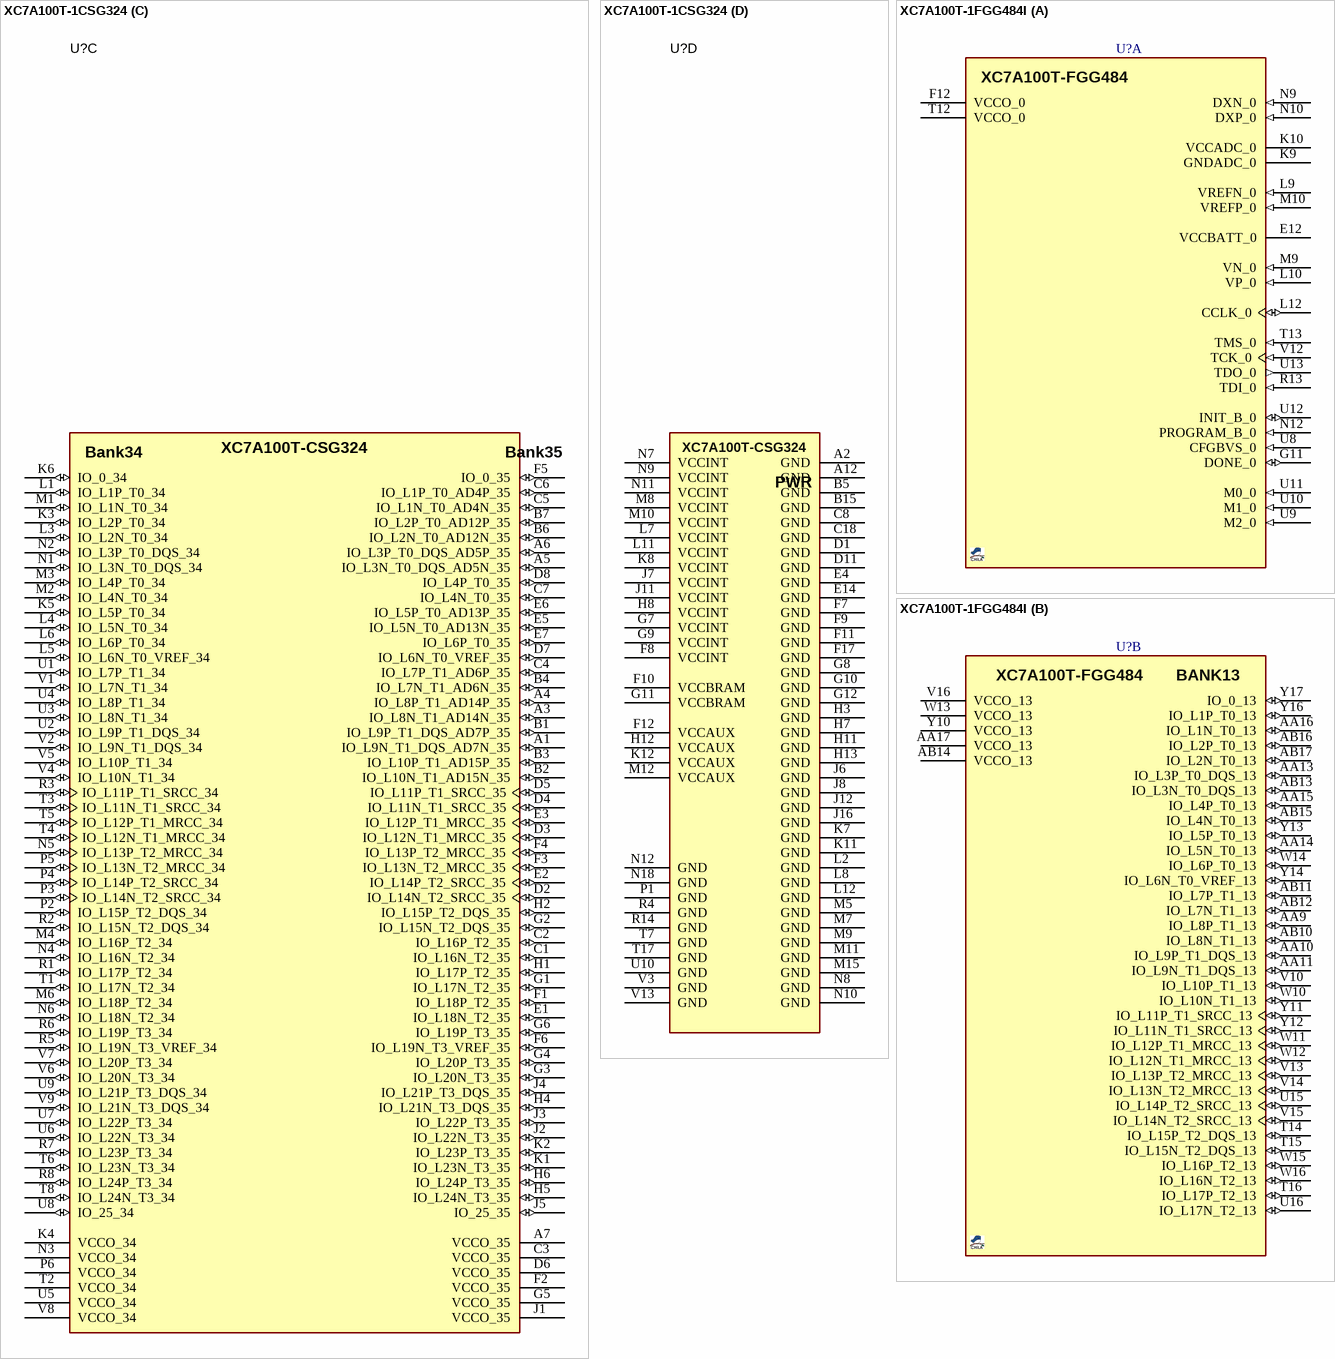
[diagram p14: symbols XC7A100T-1CSG324 to XC7A100T-1FGG484I]

## XC7A100T-1CSG324
designator U?, comment XC7A100T-1CSG324A  (value not drawn)
Artix-7 FPGA 210 I/O, CSG324; MANF: Xilinx; MountType: SMT; ASSEMBLY: ASSEMBLY; MANF_P#: XC7A100T-1CSG324A; PACKAGE: CSG324; VALUE: XC7A100T-1CSG324A
footprint BGA80_324_S15 (BGA, 324-Leads, CSG324, Body 15x15mm, Pitch 0.8mm, AM33XX)
part A pins: E8 VCCBATT_0 (power), E9 CCLK_0 (io), E10 TCK_0 (in), E11 TDI_0 (in), E12 TMS_0 (in), E13 TDO_0 (out), H9 GNDADC_0 (power), H10 VCCADC_0 (power), J9 VREFN_0 (in), J10 VP_0 (in), K9 VN_0 (in), K10 VREFP_0 (in), L9 DXN_0 (in), L10 DXP_0 (in), P7 INIT_B_0 (io), P8 CFGBVS_0 (in), P9 PROGRAM_B_0 (in), P10 DONE_0 (io), P11 M2_0 (in), P12 M0_0 (in), P13 M1_0 (in), R9 VCCO_0 (power)
part B pins: A8 IO_L12N_T1_MRCC_16 (io), A9 IO_L14N_T2_SRCC_16 (io), A10 IO_L14P_T2_SRCC_16 (io), A11 IO_L4N_T0_15 (io), A13 IO_L9P_T1_DQS_AD3P_15 (io), A14 IO_L9N_T1_DQS_AD3N_15 (io), A15 IO_L8P_T1_AD10P_15 (io), A16 IO_L8N_T1_AD10N_15 (io), A17 VCCO_15 (power), A18 IO_L10N_T1_AD11N_15 (io), B8 IO_L12P_T1_MRCC_16 (io), B9 IO_L11N_T1_SRCC_16 (io), B10 VCCO_16 (power), B11 IO_L4P_T0_15 (io), B12 IO_L3N_T0_DQS_AD1N_15 (io), B13 IO_L2P_T0_AD8P_15 (io), B14 IO_L2N_T0_AD8N_15 (io), B16 IO_L7P_T1_AD2P_15 (io), B17 IO_L7N_T1_AD2N_15 (io), B18 IO_L10P_T1_AD11P_15 (io), C9 IO_L11P_T1_SRCC_16 (io), C10 IO_L13N_T2_MRCC_16 (io), C11 IO_L13P_T2_MRCC_16 (io), C12 IO_L3P_T0_DQS_AD1P_15 (io), C13 VCCO_15 (power), C14 IO_L1N_T0_AD0N_15 (io), C15 IO_L12N_T1_MRCC_15 (io), C16 IO_L20P_T3_A20_15 (io), C17 IO_L20N_T3_A19_15 (io), D9 IO_L6N_T0_VREF_16 (io), D10 IO_L19N_T3_VREF_16 (io), D12 IO_L6P_T0_15 (io), D13 IO_L6N_T0_VREF_15 (io), D14 IO_L1P_T0_AD0P_15 (io), D15 IO_L12P_T1_MRCC_15 (io), D16 VCCO_15 (power), D17 IO_L16N_T2_A27_15 (io), D18 IO_L21N_T3_DQS_A18_15 (io), E15 IO_L11P_T1_SRCC_15 (io), E16 IO_L11N_T1_SRCC_15 (io), E17 IO_L16P_T2_A28_15 (io), E18 IO_L21P_T3_DQS_15 (io), F13 IO_L5P_T0_AD9P_15 (io), F14 IO_L5N_T0_AD9N_15 (io), F15 IO_L14P_T2_SRCC_15 (io), F16 IO_L14N_T2_SRCC_15 (io), F18 IO_L22N_T3_A16_15 (io), G13 IO_0_15 (io), G14 IO_L15N_T2_DQS_ADV_B_15 (io), G15 VCCO_15 (power), G16 IO_L13N_T2_MRCC_15 (io), G17 IO_L18N_T2_A23_15 (io), G18 IO_L22P_T3_A17_15 (io), H14 IO_L15P_T2_DQS_15 (io), H15 IO_L19N_T3_A21_VREF_15 (io), H16 IO_L13P_T2_MRCC_15 (io), H17 IO_L18P_T2_A24_15 (io), H18 VCCO_15 (power), J13 IO_L17N_T2_A25_15 (io), J14 IO_L19P_T3_A22_15 (io), J15 IO_L24N_T3_RS0_15 (io), J17 IO_L23P_T3_FOE_B_15 (io), J18 IO_L23N_T3_FWE_B_15 (io), K13 IO_L17P_T2_A26_15 (io), K14 VCCO_15 (power), K15 IO_L24P_T3_RS1_15 (io), K16 IO_25_15 (io), K17 IO_L1P_T0_D00_MOSI_14 (io), K18 IO_L1N_T0_D01_DIN_14 (io), L13 IO_L6P_T0_FCS_B_14 (io), L14 IO_L2P_T0_D02_14 (io), L15 IO_L3P_T0_DQS_PUDC_B_14 (io), L16 IO_L3N_T0_DQS_EMCCLK_14 (io), L17 VCCO_14 (power), L18 IO_L4P_T0_D04_14 (io), M13 IO_L6N_T0_D08_VREF_14 (io), M14 IO_L2N_T0_D03_14 (io), M16 IO_L10P_T1_D14_14 (io), M17 IO_L10N_T1_D15_14 (io), M18 IO_L4N_T0_D05_14 (io), N13 VCCO_14 (power), N14 IO_L8P_T1_D11_14 (io), N15 IO_L11P_T1_SRCC_14 (io), N16 IO_L11N_T1_SRCC_14 (io), N17 IO_L9P_T1_DQS_14 (io), P14 IO_L8N_T1_D12_14 (io), P15 IO_L13P_T2_MRCC_14 (io), P16 VCCO_14 (power), P17 IO_L12P_T1_MRCC_14 (io), P18 IO_L9N_T1_DQS_D13_14 (io), R10 IO_25_14 (io), R11 IO_0_14 (io), R12 IO_L5P_T0_D06_14 (io), R13 IO_L5N_T0_D07_14 (io), R15 IO_L13N_T2_MRCC_14 (io), R16 IO_L15P_T2_DQS_RDWR_B_14 (io), R17 IO_L12N_T1_MRCC_14 (io), R18 IO_L7P_T1_D09_14 (io), T9 IO_L24P_T3_A01_D17_14 (io), T10 IO_L24N_T3_A00_D16_14 (io), T11 IO_L19P_T3_A10_D26_14 (io), T12 VCCO_14 (power), T13 IO_L23P_T3_A03_D19_14 (io), T14 IO_L14P_T2_SRCC_14 (io), T15 IO_L14N_T2_SRCC_14 (io), T16 IO_L15N_T2_DQS_DOUT_CSO_B_14 (io), T18 IO_L7N_T1_D10_14 (io), U11 IO_L19N_T3_A09_D25_VREF_14 (io), U12 IO_L20P_T3_A08_D24_14 (io), U13 IO_L23N_T3_A02_D18_14 (io), U14 IO_L22P_T3_A05_D21_14 (io), U15 VCCO_14 (power), U16 IO_L18P_T2_A12_D28_14 (io), U17 IO_L17P_T2_A14_D30_14 (io), U18 IO_L17N_T2_A13_D29_14 (io), V10 IO_L21P_T3_DQS_14 (io), V11 IO_L21N_T3_DQS_A06_D22_14 (io), V12 IO_L20N_T3_A07_D23_14 (io), V14 IO_L22N_T3_A04_D20_14 (io), V15 IO_L16P_T2_CSI_B_14 (io), V16 IO_L16N_T2_A15_D31_14 (io), V17 IO_L18N_T2_A11_D27_14 (io), V18 VCCO_14 (power)
part C pins: A1 IO_L9N_T1_DQS_AD7N_35 (io), A3 IO_L8N_T1_AD14N_35 (io), A4 IO_L8P_T1_AD14P_35 (io), A5 IO_L3N_T0_DQS_AD5N_35 (io), A6 IO_L3P_T0_DQS_AD5P_35 (io), A7 VCCO_35 (power), B1 IO_L9P_T1_DQS_AD7P_35 (io), B2 IO_L10N_T1_AD15N_35 (io), B3 IO_L10P_T1_AD15P_35 (io), B4 IO_L7N_T1_AD6N_35 (io), B6 IO_L2N_T0_AD12N_35 (io), B7 IO_L2P_T0_AD12P_35 (io), C1 IO_L16N_T2_35 (io), C2 IO_L16P_T2_35 (io), C3 VCCO_35 (power), C4 IO_L7P_T1_AD6P_35 (io), C5 IO_L1N_T0_AD4N_35 (io), C6 IO_L1P_T0_AD4P_35 (io), C7 IO_L4N_T0_35 (io), D2 IO_L14N_T2_SRCC_35 (io), D3 IO_L12N_T1_MRCC_35 (io), D4 IO_L11N_T1_SRCC_35 (io), D5 IO_L11P_T1_SRCC_35 (io), D6 VCCO_35 (power), D7 IO_L6N_T0_VREF_35 (io), D8 IO_L4P_T0_35 (io), E1 IO_L18N_T2_35 (io), E2 IO_L14P_T2_SRCC_35 (io), E3 IO_L12P_T1_MRCC_35 (io), E5 IO_L5N_T0_AD13N_35 (io), E6 IO_L5P_T0_AD13P_35 (io), E7 IO_L6P_T0_35 (io), F1 IO_L18P_T2_35 (io), F2 VCCO_35 (power), F3 IO_L13N_T2_MRCC_35 (io), F4 IO_L13P_T2_MRCC_35 (io), F5 IO_0_35 (io), F6 IO_L19N_T3_VREF_35 (io), G1 IO_L17N_T2_35 (io), G2 IO_L15N_T2_DQS_35 (io), G3 IO_L20N_T3_35 (io), G4 IO_L20P_T3_35 (io), G5 VCCO_35 (power), G6 IO_L19P_T3_35 (io), H1 IO_L17P_T2_35 (io), H2 IO_L15P_T2_DQS_35 (io), H4 IO_L21N_T3_DQS_35 (io), H5 IO_L24N_T3_35 (io), H6 IO_L24P_T3_35 (io), J1 VCCO_35 (power), J2 IO_L22N_T3_35 (io), J3 IO_L22P_T3_35 (io), J4 IO_L21P_T3_DQS_35 (io), J5 IO_25_35 (io), K1 IO_L23N_T3_35 (io), K2 IO_L23P_T3_35 (io), K3 IO_L2P_T0_34 (io), K4 VCCO_34 (power), K5 IO_L5P_T0_34 (io), K6 IO_0_34 (io), L1 IO_L1P_T0_34 (io), L3 IO_L2N_T0_34 (io), L4 IO_L5N_T0_34 (io), L5 IO_L6N_T0_VREF_34 (io), L6 IO_L6P_T0_34 (io), M1 IO_L1N_T0_34 (io), M2 IO_L4N_T0_34 (io), M3 IO_L4P_T0_34 (io), M4 IO_L16P_T2_34 (io), M6 IO_L18P_T2_34 (io), N1 IO_L3N_T0_DQS_34 (io), N2 IO_L3P_T0_DQS_34 (io), N3 VCCO_34 (power), N4 IO_L16N_T2_34 (io), N5 IO_L13P_T2_MRCC_34 (io), N6 IO_L18N_T2_34 (io), P2 IO_L15P_T2_DQS_34 (io), P3 IO_L14N_T2_SRCC_34 (io), P4 IO_L14P_T2_SRCC_34 (io), P5 IO_L13N_T2_MRCC_34 (io), P6 VCCO_34 (power), R1 IO_L17P_T2_34 (io), R2 IO_L15N_T2_DQS_34 (io), R3 IO_L11P_T1_SRCC_34 (io), R5 IO_L19N_T3_VREF_34 (io), R6 IO_L19P_T3_34 (io), R7 IO_L23P_T3_34 (io), R8 IO_L24P_T3_34 (io), T1 IO_L17N_T2_34 (io), T2 VCCO_34 (power), T3 IO_L11N_T1_SRCC_34 (io), T4 IO_L12N_T1_MRCC_34 (io), T5 IO_L12P_T1_MRCC_34 (io), T6 IO_L23N_T3_34 (io), T8 IO_L24N_T3_34 (io), U1 IO_L7P_T1_34 (io), U2 IO_L9P_T1_DQS_34 (io), U3 IO_L8N_T1_34 (io), U4 IO_L8P_T1_34 (io), U5 VCCO_34 (power), U6 IO_L22N_T3_34 (io), U7 IO_L22P_T3_34 (io), U8 IO_25_34 (io), U9 IO_L21P_T3_DQS_34 (io), V1 IO_L7N_T1_34 (io), V2 IO_L9N_T1_DQS_34 (io), V4 IO_L10N_T1_34 (io), V5 IO_L10P_T1_34 (io), V6 IO_L20N_T3_34 (io), V7 IO_L20P_T3_34 (io), V8 VCCO_34 (power), V9 IO_L21N_T3_DQS_34 (io)
part D pins: A2 GND (power), A12 GND (power), B5 GND (power), B15 GND (power), C8 GND (power), C18 GND (power), D1 GND (power), D11 GND (power), E4 GND (power), E14 GND (power), F7 GND (power), F8 VCCINT (power), F9 GND (power), F10 VCCBRAM (power), F11 GND (power), F12 VCCAUX (power), F17 GND (power), G7 VCCINT (power), G8 GND (power), G9 VCCINT (power), G10 GND (power), G11 VCCBRAM (power), G12 GND (power), H3 GND (power), H7 GND (power), H8 VCCINT (power), H11 GND (power), H12 VCCAUX (power), H13 GND (power), J6 GND (power), J7 VCCINT (power), J8 GND (power), J11 VCCINT (power), J12 GND (power), J16 GND (power), K7 GND (power), K8 VCCINT (power), K11 GND (power), K12 VCCAUX (power), L2 GND (power), L7 VCCINT (power), L8 GND (power), L11 VCCINT (power), L12 GND (power), M5 GND (power), M7 GND (power), M8 VCCINT (power), M9 GND (power), M10 VCCINT (power), M11 GND (power), M12 VCCAUX (power), M15 GND (power), N7 VCCINT (power), N8 GND (power), N9 VCCINT (power), N10 GND (power), N11 VCCINT (power), N12 GND (power), N18 GND (power), P1 GND (power), R4 GND (power), R14 GND (power), T7 GND (power), T17 GND (power), U10 GND (power), V3 GND (power), V13 GND (power)
part A text: XC7A100T-CSG324; Bank0
part B text: XC7A100T-CSG324; Bank14; Bank15
part C text: XC7A100T-CSG324; Bank34; Bank35
part D text: XC7A100T-CSG324; PWR

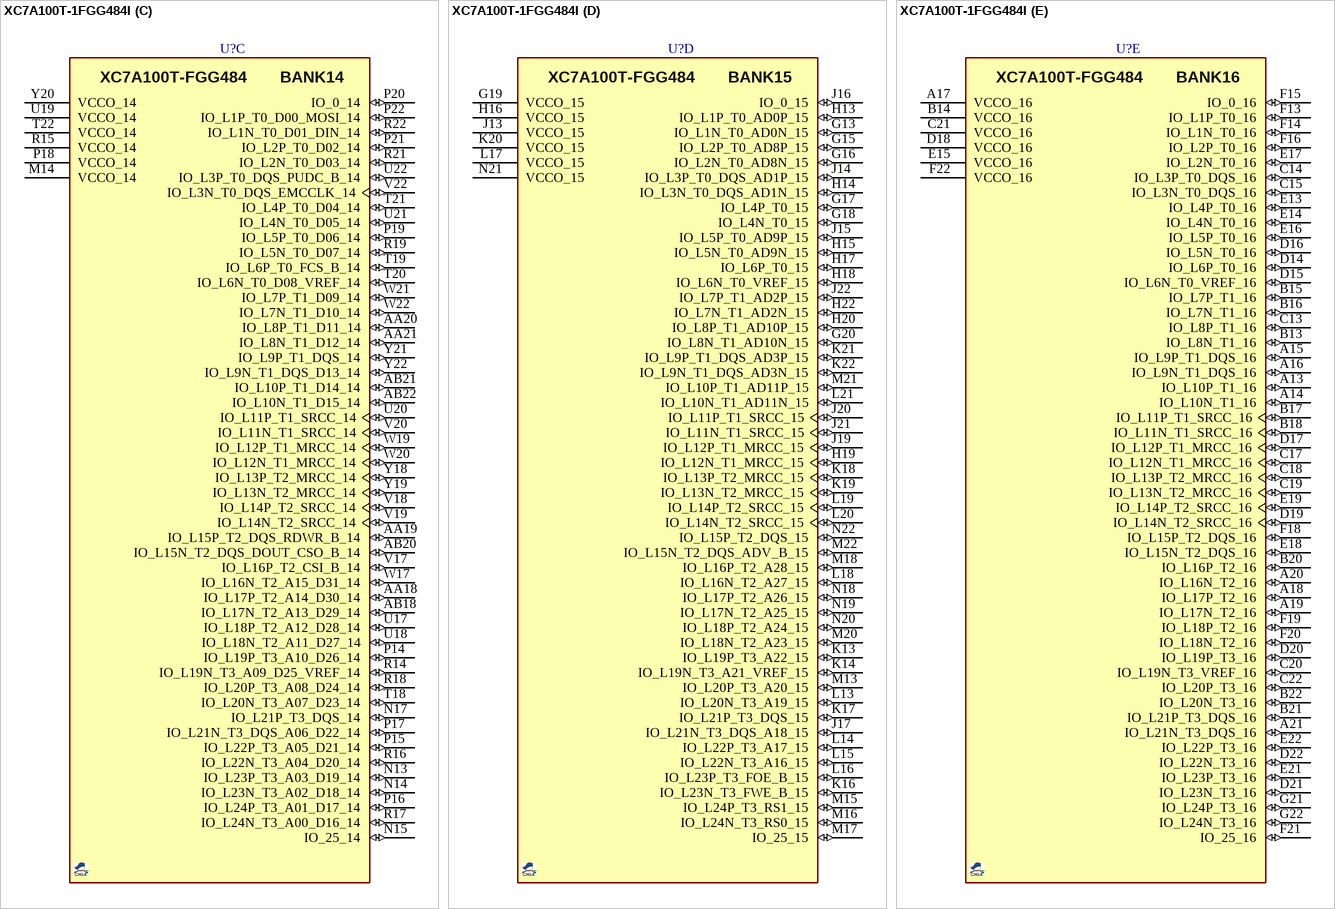
[diagram p15: symbol XC7A100T-1FGG484I]

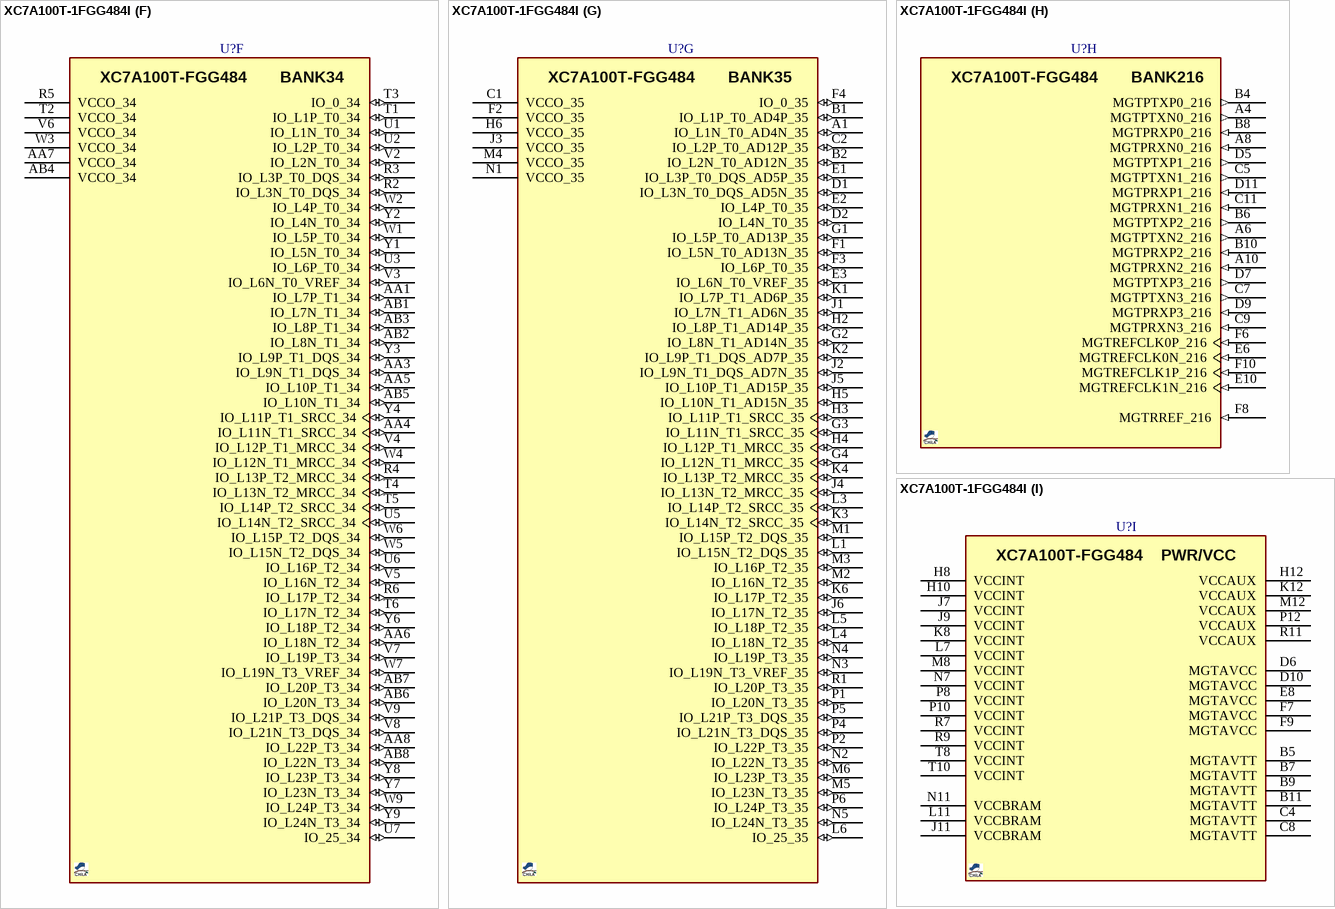
[diagram p16: symbol XC7A100T-1FGG484I]

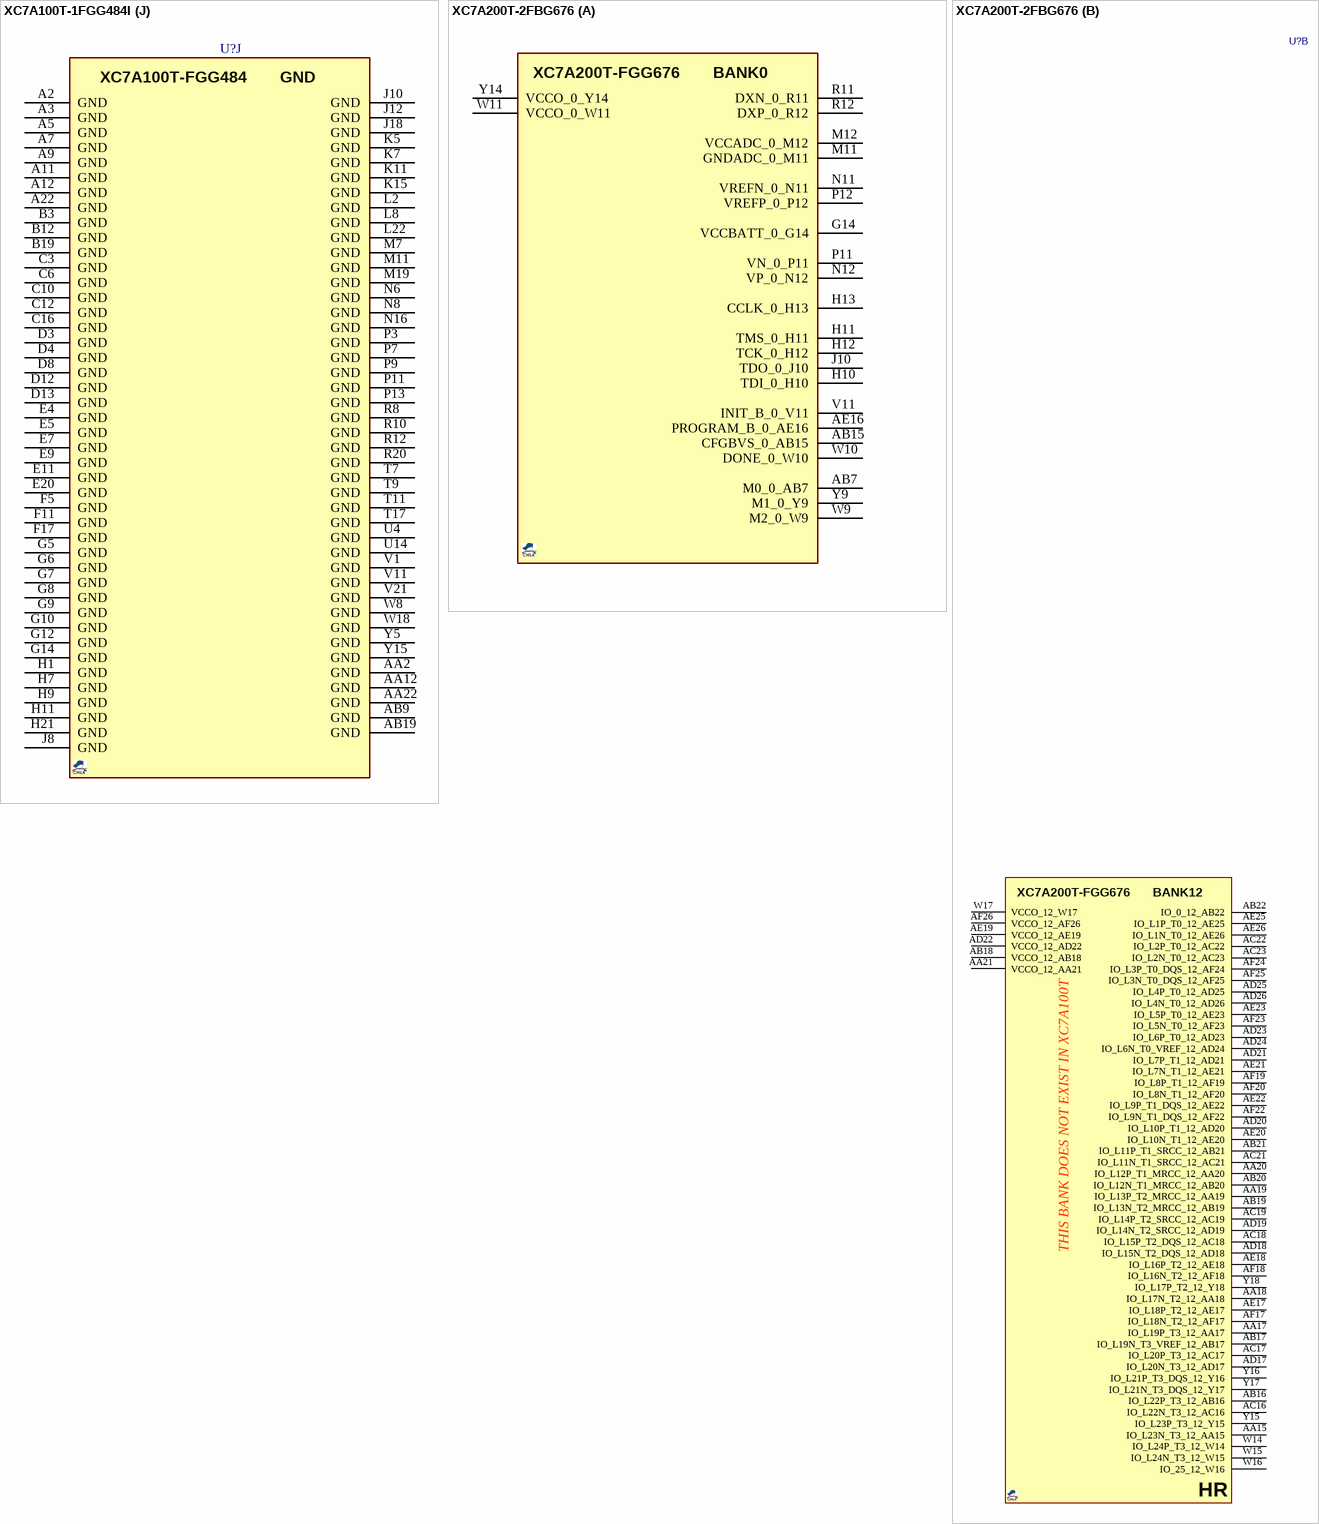
[diagram p17: symbols XC7A100T-1FGG484I to XC7A200T-2FBG676]